# Altium integrated library Maxim Memory.IntLib: 366 symbols (part 4 of 7)
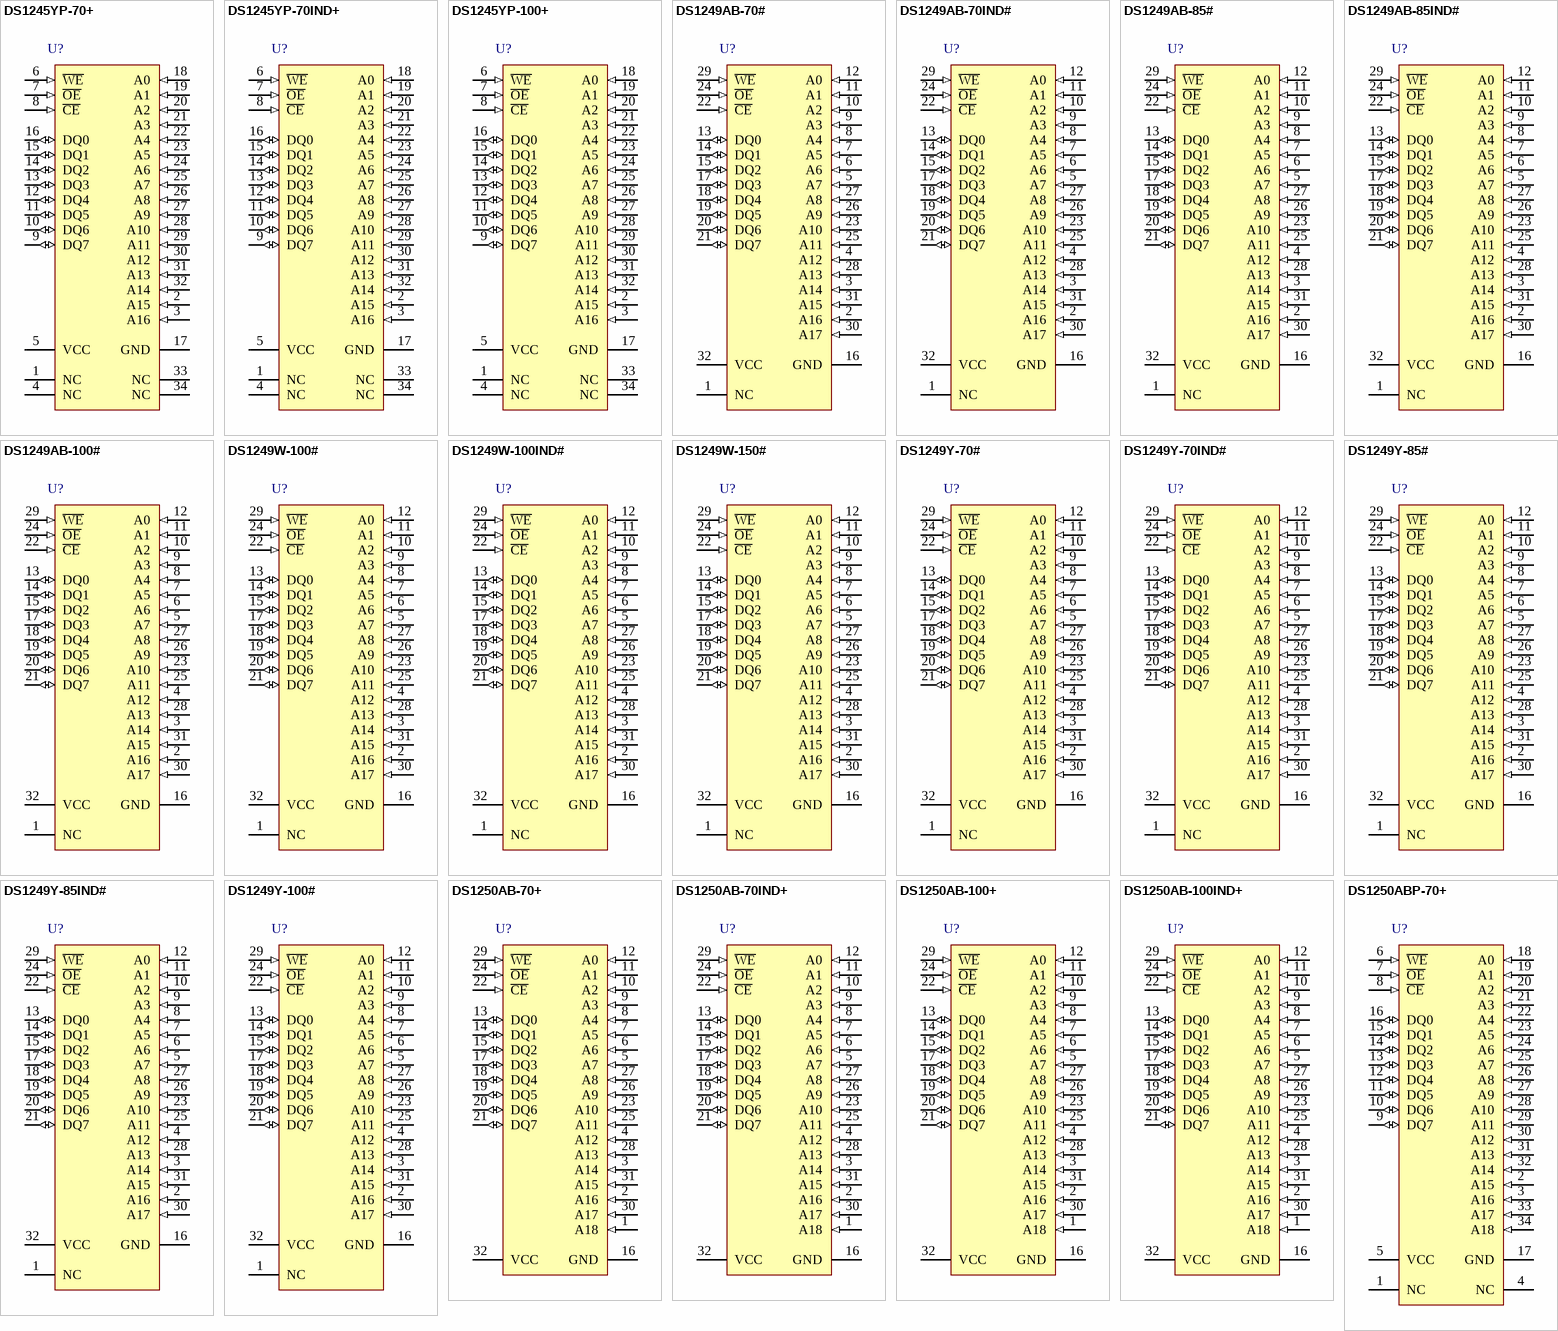
[diagram p16: symbols DS1245YP-70+ to DS1250ABP-70+]

## DS1250ABP-70+
designator U?
4Mb Nonvolatile SRAM, +/-5% VCC Operating range, 34-pin PCAP, 0° to + 70° C, Pb-Free; DatasheetVersion: 1/12/2010; PackageVersion: revA, 2004; PackageReference: PC2+5; PackageDescription: 34-Pin PowerCap 0.990 Module with Cap, Pb-Free; ComponentLink1Description: Manufacturer URL; ComponentLink1URL: www.maxim-ic.com; ComponentLink2Description: Datasheet; ComponentLink2URL: http://datasheets.maxim-ic.com/en/ds/DS1250AB-DS1250Y.pdf
footprint PC2+5 (PowerCap Module with Cap, 34-Leads, Body 24.7 x.25.3mm, Pitch 1.27mm)
pins: 1 NC, 2 A15 (in), 3 A16 (in), 4 NC, 5 VCC (power), 6 ~{WE} (in), 7 ~{OE} (in), 8 ~{CE} (in), 9 DQ7 (io), 10 DQ6 (io), 11 DQ5 (io), 12 DQ4 (io), 13 DQ3 (io), 14 DQ2 (io), 15 DQ1 (io), 16 DQ0 (io), 17 GND (power), 18 A0 (in), 19 A1 (in), 20 A2 (in), 21 A3 (in), 22 A4 (in), 23 A5 (in), 24 A6 (in), 25 A7 (in), 26 A8 (in), 27 A9 (in), 28 A10 (in), 29 A11 (in), 30 A12 (in), 31 A13 (in), 32 A14 (in), 33 A17 (in), 34 A18 (in)

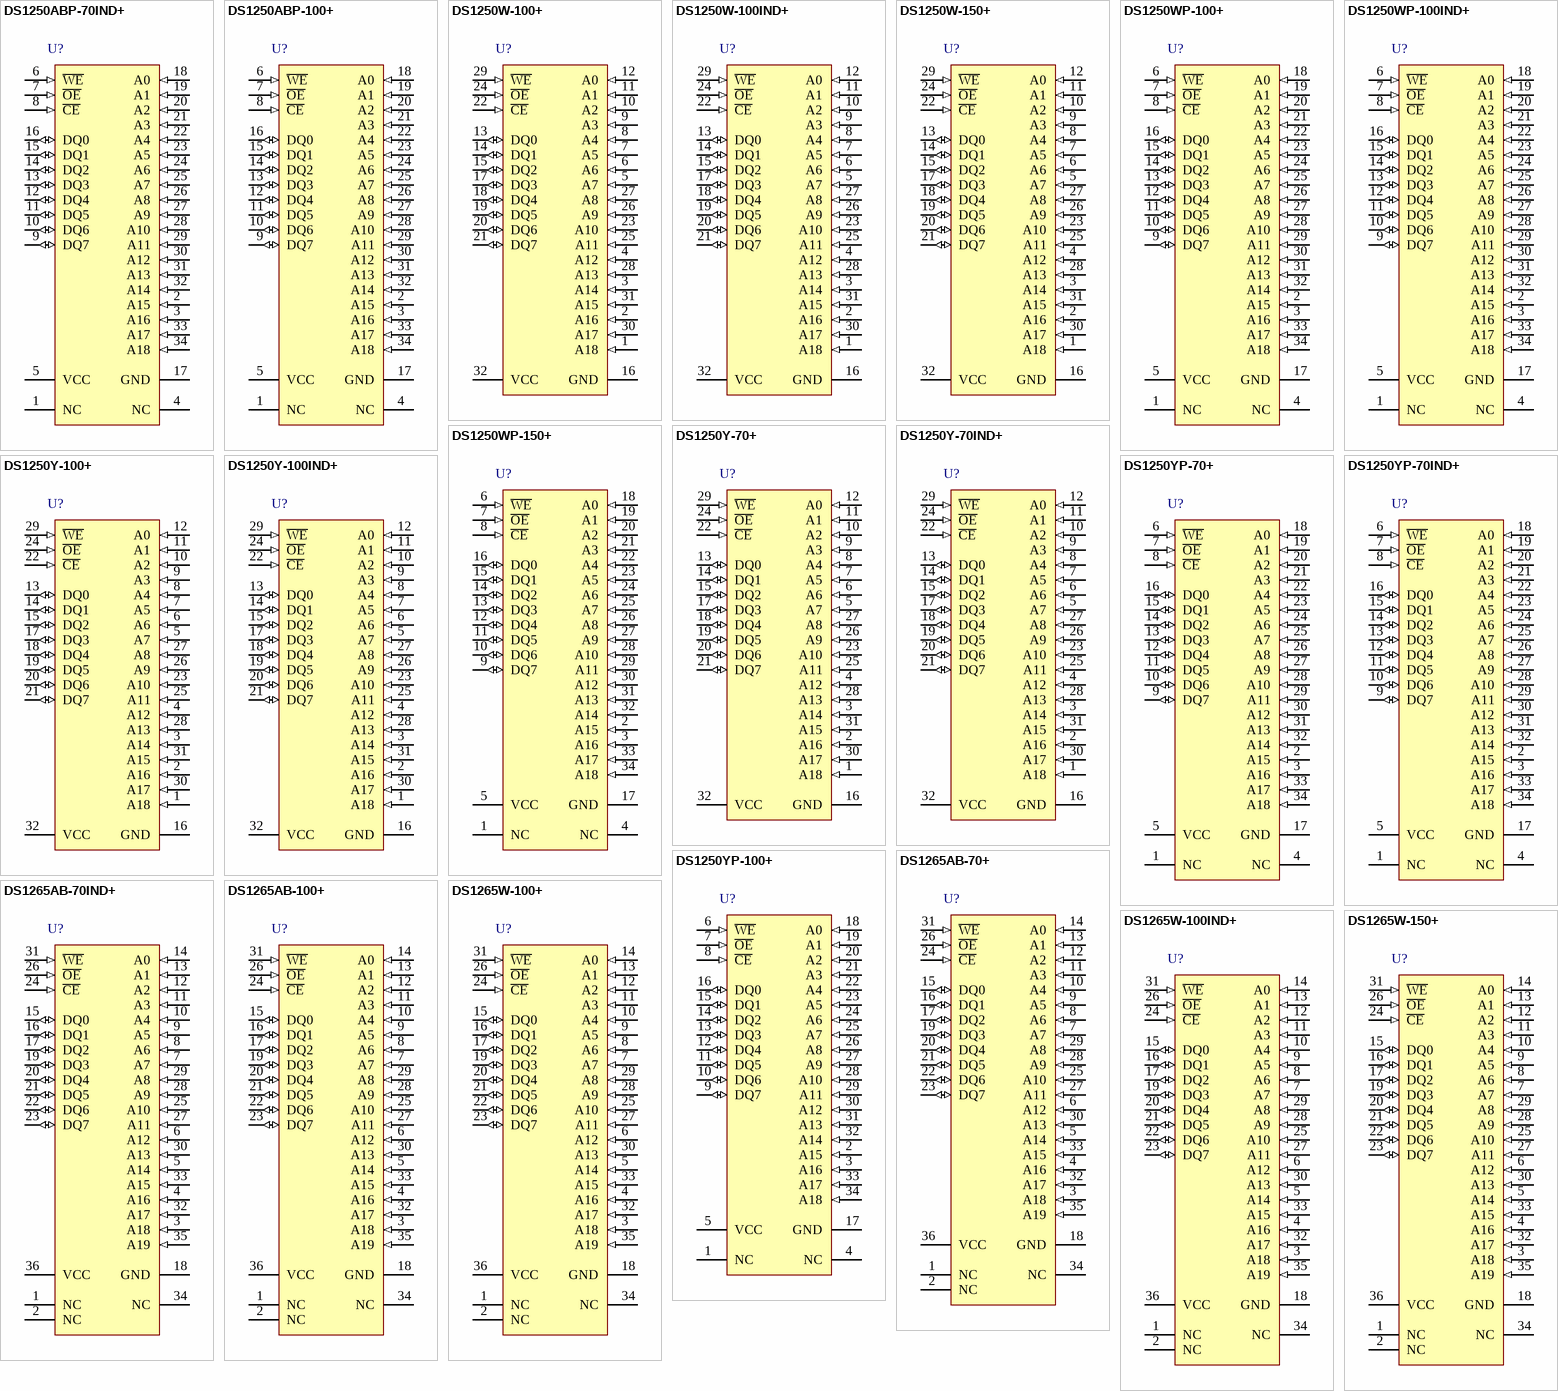
[diagram p6: symbols DS1250ABP-70IND+ to DS1265W-150+]

## DS1250ABP-70IND+
designator U?
4Mb Nonvolatile SRAM, +/-5% VCC Operating range, 34-pin PCAP, -40° to + 85° C, Pb-Free; DatasheetVersion: 1/12/2010; PackageVersion: revA, 2004; PackageReference: PC2+5; PackageDescription: 34-Pin PowerCap 0.990 Module with Cap, Pb-Free; ComponentLink1Description: Manufacturer URL; ComponentLink1URL: www.maxim-ic.com; ComponentLink2Description: Datasheet; ComponentLink2URL: http://datasheets.maxim-ic.com/en/ds/DS1250AB-DS1250Y.pdf
footprint PC2+5 (PowerCap Module with Cap, 34-Leads, Body 24.7 x.25.3mm, Pitch 1.27mm)
pins: 1 NC, 2 A15 (in), 3 A16 (in), 4 NC, 5 VCC (power), 6 ~{WE} (in), 7 ~{OE} (in), 8 ~{CE} (in), 9 DQ7 (io), 10 DQ6 (io), 11 DQ5 (io), 12 DQ4 (io), 13 DQ3 (io), 14 DQ2 (io), 15 DQ1 (io), 16 DQ0 (io), 17 GND (power), 18 A0 (in), 19 A1 (in), 20 A2 (in), 21 A3 (in), 22 A4 (in), 23 A5 (in), 24 A6 (in), 25 A7 (in), 26 A8 (in), 27 A9 (in), 28 A10 (in), 29 A11 (in), 30 A12 (in), 31 A13 (in), 32 A14 (in), 33 A17 (in), 34 A18 (in)

## DS1250ABP-100+
designator U?
4Mb Nonvolatile SRAM, +/-5% VCC Operating range, 34-pin PCAP, 0° to + 70° C, Pb-Free; DatasheetVersion: 1/12/2010; PackageVersion: revA, 2004; PackageReference: PC2+5; PackageDescription: 34-Pin PowerCap 0.990 Module with Cap, Pb-Free; ComponentLink1Description: Manufacturer URL; ComponentLink1URL: www.maxim-ic.com; ComponentLink2Description: Datasheet; ComponentLink2URL: http://datasheets.maxim-ic.com/en/ds/DS1250AB-DS1250Y.pdf
footprint PC2+5 (PowerCap Module with Cap, 34-Leads, Body 24.7 x.25.3mm, Pitch 1.27mm)
pins: 1 NC, 2 A15 (in), 3 A16 (in), 4 NC, 5 VCC (power), 6 ~{WE} (in), 7 ~{OE} (in), 8 ~{CE} (in), 9 DQ7 (io), 10 DQ6 (io), 11 DQ5 (io), 12 DQ4 (io), 13 DQ3 (io), 14 DQ2 (io), 15 DQ1 (io), 16 DQ0 (io), 17 GND (power), 18 A0 (in), 19 A1 (in), 20 A2 (in), 21 A3 (in), 22 A4 (in), 23 A5 (in), 24 A6 (in), 25 A7 (in), 26 A8 (in), 27 A9 (in), 28 A10 (in), 29 A11 (in), 30 A12 (in), 31 A13 (in), 32 A14 (in), 33 A17 (in), 34 A18 (in)

## DS1250W-100+
designator U?
4Mb 3.3V Nonvolatile SRAM, 32-pin EDIP, 0° to + 70° C, Pb-Free; DatasheetVersion: 1/12/2010; PackageVersion: revA, Feb-2003; PackageReference: MDT32+6; PackageDescription: 32-Pin Encapsulated Dual-In-Line Module, 2.54 mm Pitch, EDIP, Pb-Free; ComponentLink1Description: Manufacturer URL; ComponentLink1URL: www.maxim-ic.com; ComponentLink2Description: Datasheet; ComponentLink2URL: http://datasheets.maxim-ic.com/en/ds/DS1250W.pdf
footprint MDT32+6 (DIP; 32 Rectangular Pins, Body 43.1x18.5mm, Row Space 15.24mm, Pitch 2.54mm)
pins: 1 A18 (in), 2 A16 (in), 3 A14 (in), 4 A12 (in), 5 A7 (in), 6 A6 (in), 7 A5 (in), 8 A4 (in), 9 A3 (in), 10 A2 (in), 11 A1 (in), 12 A0 (in), 13 DQ0 (io), 14 DQ1 (io), 15 DQ2 (io), 16 GND (power), 17 DQ3 (io), 18 DQ4 (io), 19 DQ5 (io), 20 DQ6 (io), 21 DQ7 (io), 22 ~{CE} (in), 23 A10 (in), 24 ~{OE} (in), 25 A11 (in), 26 A9 (in), 27 A8 (in), 28 A13 (in), 29 ~{WE} (in), 30 A17 (in), 31 A15 (in), 32 VCC (power)

## DS1250W-100IND+
designator U?
4Mb 3.3V Nonvolatile SRAM, 32-pin EDIP, -40° to + 85° C, Pb-Free; DatasheetVersion: 1/12/2010; PackageVersion: revA, Feb-2003; PackageReference: MDT32+6; PackageDescription: 32-Pin Encapsulated Dual-In-Line Module, 2.54 mm Pitch, EDIP, Pb-Free; ComponentLink1Description: Manufacturer URL; ComponentLink1URL: www.maxim-ic.com; ComponentLink2Description: Datasheet; ComponentLink2URL: http://datasheets.maxim-ic.com/en/ds/DS1250W.pdf
footprint MDT32+6 (DIP; 32 Rectangular Pins, Body 43.1x18.5mm, Row Space 15.24mm, Pitch 2.54mm)
pins: 1 A18 (in), 2 A16 (in), 3 A14 (in), 4 A12 (in), 5 A7 (in), 6 A6 (in), 7 A5 (in), 8 A4 (in), 9 A3 (in), 10 A2 (in), 11 A1 (in), 12 A0 (in), 13 DQ0 (io), 14 DQ1 (io), 15 DQ2 (io), 16 GND (power), 17 DQ3 (io), 18 DQ4 (io), 19 DQ5 (io), 20 DQ6 (io), 21 DQ7 (io), 22 ~{CE} (in), 23 A10 (in), 24 ~{OE} (in), 25 A11 (in), 26 A9 (in), 27 A8 (in), 28 A13 (in), 29 ~{WE} (in), 30 A17 (in), 31 A15 (in), 32 VCC (power)

## DS1250W-150+
designator U?
4Mb 3.3V Nonvolatile SRAM, 32-pin EDIP, 0° to + 70° C, Pb-Free; DatasheetVersion: 1/12/2010; PackageVersion: revA, Feb-2003; PackageReference: MDT32+6; PackageDescription: 32-Pin Encapsulated Dual-In-Line Module, 2.54 mm Pitch, EDIP, Pb-Free; ComponentLink1Description: Manufacturer URL; ComponentLink1URL: www.maxim-ic.com; ComponentLink2Description: Datasheet; ComponentLink2URL: http://datasheets.maxim-ic.com/en/ds/DS1250W.pdf
footprint MDT32+6 (DIP; 32 Rectangular Pins, Body 43.1x18.5mm, Row Space 15.24mm, Pitch 2.54mm)
pins: 1 A18 (in), 2 A16 (in), 3 A14 (in), 4 A12 (in), 5 A7 (in), 6 A6 (in), 7 A5 (in), 8 A4 (in), 9 A3 (in), 10 A2 (in), 11 A1 (in), 12 A0 (in), 13 DQ0 (io), 14 DQ1 (io), 15 DQ2 (io), 16 GND (power), 17 DQ3 (io), 18 DQ4 (io), 19 DQ5 (io), 20 DQ6 (io), 21 DQ7 (io), 22 ~{CE} (in), 23 A10 (in), 24 ~{OE} (in), 25 A11 (in), 26 A9 (in), 27 A8 (in), 28 A13 (in), 29 ~{WE} (in), 30 A17 (in), 31 A15 (in), 32 VCC (power)

## DS1250WP-100+
designator U?
4Mb 3.3V Nonvolatile SRAM, 34-pin PCAP, 0° to + 70° C, Pb-Free; DatasheetVersion: 1/12/2010; PackageVersion: revA, 2004; PackageReference: PC2+5; PackageDescription: 34-Pin PowerCap 0.990 Module with Cap, Pb-Free; ComponentLink1Description: Manufacturer URL; ComponentLink1URL: www.maxim-ic.com; ComponentLink2Description: Datasheet; ComponentLink2URL: http://datasheets.maxim-ic.com/en/ds/DS1250W.pdf
footprint PC2+5 (PowerCap Module with Cap, 34-Leads, Body 24.7 x.25.3mm, Pitch 1.27mm)
pins: 1 NC, 2 A15 (in), 3 A16 (in), 4 NC, 5 VCC (power), 6 ~{WE} (in), 7 ~{OE} (in), 8 ~{CE} (in), 9 DQ7 (io), 10 DQ6 (io), 11 DQ5 (io), 12 DQ4 (io), 13 DQ3 (io), 14 DQ2 (io), 15 DQ1 (io), 16 DQ0 (io), 17 GND (power), 18 A0 (in), 19 A1 (in), 20 A2 (in), 21 A3 (in), 22 A4 (in), 23 A5 (in), 24 A6 (in), 25 A7 (in), 26 A8 (in), 27 A9 (in), 28 A10 (in), 29 A11 (in), 30 A12 (in), 31 A13 (in), 32 A14 (in), 33 A17 (in), 34 A18 (in)

## DS1250WP-100IND+
designator U?
4Mb 3.3V Nonvolatile SRAM, 34-pin PCAP, -40° to + 85° C, Pb-Free; DatasheetVersion: 1/12/2010; PackageVersion: revA, 2004; PackageReference: PC2+5; PackageDescription: 34-Pin PowerCap 0.990 Module with Cap, Pb-Free; ComponentLink1Description: Manufacturer URL; ComponentLink1URL: www.maxim-ic.com; ComponentLink2Description: Datasheet; ComponentLink2URL: http://datasheets.maxim-ic.com/en/ds/DS1250W.pdf
footprint PC2+5 (PowerCap Module with Cap, 34-Leads, Body 24.7 x.25.3mm, Pitch 1.27mm)
pins: 1 NC, 2 A15 (in), 3 A16 (in), 4 NC, 5 VCC (power), 6 ~{WE} (in), 7 ~{OE} (in), 8 ~{CE} (in), 9 DQ7 (io), 10 DQ6 (io), 11 DQ5 (io), 12 DQ4 (io), 13 DQ3 (io), 14 DQ2 (io), 15 DQ1 (io), 16 DQ0 (io), 17 GND (power), 18 A0 (in), 19 A1 (in), 20 A2 (in), 21 A3 (in), 22 A4 (in), 23 A5 (in), 24 A6 (in), 25 A7 (in), 26 A8 (in), 27 A9 (in), 28 A10 (in), 29 A11 (in), 30 A12 (in), 31 A13 (in), 32 A14 (in), 33 A17 (in), 34 A18 (in)

## DS1250WP-150+
designator U?
4Mb 3.3V Nonvolatile SRAM, 34-pin PCAP, 0° to + 70° C, Pb-Free; DatasheetVersion: 1/12/2010; PackageVersion: revA, 2004; PackageReference: PC2+5; PackageDescription: 34-Pin PowerCap 0.990 Module with Cap, Pb-Free; ComponentLink1Description: Manufacturer URL; ComponentLink1URL: www.maxim-ic.com; ComponentLink2Description: Datasheet; ComponentLink2URL: http://datasheets.maxim-ic.com/en/ds/DS1250W.pdf
footprint PC2+5 (PowerCap Module with Cap, 34-Leads, Body 24.7 x.25.3mm, Pitch 1.27mm)
pins: 1 NC, 2 A15 (in), 3 A16 (in), 4 NC, 5 VCC (power), 6 ~{WE} (in), 7 ~{OE} (in), 8 ~{CE} (in), 9 DQ7 (io), 10 DQ6 (io), 11 DQ5 (io), 12 DQ4 (io), 13 DQ3 (io), 14 DQ2 (io), 15 DQ1 (io), 16 DQ0 (io), 17 GND (power), 18 A0 (in), 19 A1 (in), 20 A2 (in), 21 A3 (in), 22 A4 (in), 23 A5 (in), 24 A6 (in), 25 A7 (in), 26 A8 (in), 27 A9 (in), 28 A10 (in), 29 A11 (in), 30 A12 (in), 31 A13 (in), 32 A14 (in), 33 A17 (in), 34 A18 (in)

## DS1250Y-70+
designator U?
4Mb Nonvolatile SRAM, +/-10% VCC Operating range, 32-pin EDIP, 0° to + 70° C, Pb-Free; DatasheetVersion: 1/12/2010; PackageVersion: revA, Feb-2003; PackageReference: MDT32+6; PackageDescription: 32-Pin Encapsulated Dual-In-Line Module, 2.54 mm Pitch, EDIP, Pb-Free; ComponentLink1Description: Manufacturer URL; ComponentLink1URL: www.maxim-ic.com; ComponentLink2Description: Datasheet; ComponentLink2URL: http://datasheets.maxim-ic.com/en/ds/DS1250AB-DS1250Y.pdf
footprint MDT32+6 (DIP; 32 Rectangular Pins, Body 43.1x18.5mm, Row Space 15.24mm, Pitch 2.54mm)
pins: 1 A18 (in), 2 A16 (in), 3 A14 (in), 4 A12 (in), 5 A7 (in), 6 A6 (in), 7 A5 (in), 8 A4 (in), 9 A3 (in), 10 A2 (in), 11 A1 (in), 12 A0 (in), 13 DQ0 (io), 14 DQ1 (io), 15 DQ2 (io), 16 GND (power), 17 DQ3 (io), 18 DQ4 (io), 19 DQ5 (io), 20 DQ6 (io), 21 DQ7 (io), 22 ~{CE} (in), 23 A10 (in), 24 ~{OE} (in), 25 A11 (in), 26 A9 (in), 27 A8 (in), 28 A13 (in), 29 ~{WE} (in), 30 A17 (in), 31 A15 (in), 32 VCC (power)

## DS1250Y-70IND+
designator U?
4Mb Nonvolatile SRAM, +/-10% VCC Operating range, 32-pin EDIP, -40° to + 85° C, Pb-Free; DatasheetVersion: 1/12/2010; PackageVersion: revA, Feb-2003; PackageReference: MDT32+6; PackageDescription: 32-Pin Encapsulated Dual-In-Line Module, 2.54 mm Pitch, EDIP, Pb-Free; ComponentLink1Description: Manufacturer URL; ComponentLink1URL: www.maxim-ic.com; ComponentLink2Description: Datasheet; ComponentLink2URL: http://datasheets.maxim-ic.com/en/ds/DS1250AB-DS1250Y.pdf
footprint MDT32+6 (DIP; 32 Rectangular Pins, Body 43.1x18.5mm, Row Space 15.24mm, Pitch 2.54mm)
pins: 1 A18 (in), 2 A16 (in), 3 A14 (in), 4 A12 (in), 5 A7 (in), 6 A6 (in), 7 A5 (in), 8 A4 (in), 9 A3 (in), 10 A2 (in), 11 A1 (in), 12 A0 (in), 13 DQ0 (io), 14 DQ1 (io), 15 DQ2 (io), 16 GND (power), 17 DQ3 (io), 18 DQ4 (io), 19 DQ5 (io), 20 DQ6 (io), 21 DQ7 (io), 22 ~{CE} (in), 23 A10 (in), 24 ~{OE} (in), 25 A11 (in), 26 A9 (in), 27 A8 (in), 28 A13 (in), 29 ~{WE} (in), 30 A17 (in), 31 A15 (in), 32 VCC (power)

## DS1250Y-100+
designator U?
4Mb Nonvolatile SRAM, +/-10% VCC Operating range, 32-pin EDIP, 0° to + 70° C, Pb-Free; DatasheetVersion: 1/12/2010; PackageVersion: revA, Feb-2003; PackageReference: MDT32+6; PackageDescription: 32-Pin Encapsulated Dual-In-Line Module, 2.54 mm Pitch, EDIP, Pb-Free; ComponentLink1Description: Manufacturer URL; ComponentLink1URL: www.maxim-ic.com; ComponentLink2Description: Datasheet; ComponentLink2URL: http://datasheets.maxim-ic.com/en/ds/DS1250AB-DS1250Y.pdf
footprint MDT32+6 (DIP; 32 Rectangular Pins, Body 43.1x18.5mm, Row Space 15.24mm, Pitch 2.54mm)
pins: 1 A18 (in), 2 A16 (in), 3 A14 (in), 4 A12 (in), 5 A7 (in), 6 A6 (in), 7 A5 (in), 8 A4 (in), 9 A3 (in), 10 A2 (in), 11 A1 (in), 12 A0 (in), 13 DQ0 (io), 14 DQ1 (io), 15 DQ2 (io), 16 GND (power), 17 DQ3 (io), 18 DQ4 (io), 19 DQ5 (io), 20 DQ6 (io), 21 DQ7 (io), 22 ~{CE} (in), 23 A10 (in), 24 ~{OE} (in), 25 A11 (in), 26 A9 (in), 27 A8 (in), 28 A13 (in), 29 ~{WE} (in), 30 A17 (in), 31 A15 (in), 32 VCC (power)

## DS1250Y-100IND+
designator U?
4Mb Nonvolatile SRAM, +/-10% VCC Operating range, 32-pin EDIP, -40° to + 85° C, Pb-Free; DatasheetVersion: 1/12/2010; PackageVersion: revA, Feb-2003; PackageReference: MDT32+6; PackageDescription: 32-Pin Encapsulated Dual-In-Line Module, 2.54 mm Pitch, EDIP, Pb-Free; ComponentLink1Description: Manufacturer URL; ComponentLink1URL: www.maxim-ic.com; ComponentLink2Description: Datasheet; ComponentLink2URL: http://datasheets.maxim-ic.com/en/ds/DS1250AB-DS1250Y.pdf
footprint MDT32+6 (DIP; 32 Rectangular Pins, Body 43.1x18.5mm, Row Space 15.24mm, Pitch 2.54mm)
pins: 1 A18 (in), 2 A16 (in), 3 A14 (in), 4 A12 (in), 5 A7 (in), 6 A6 (in), 7 A5 (in), 8 A4 (in), 9 A3 (in), 10 A2 (in), 11 A1 (in), 12 A0 (in), 13 DQ0 (io), 14 DQ1 (io), 15 DQ2 (io), 16 GND (power), 17 DQ3 (io), 18 DQ4 (io), 19 DQ5 (io), 20 DQ6 (io), 21 DQ7 (io), 22 ~{CE} (in), 23 A10 (in), 24 ~{OE} (in), 25 A11 (in), 26 A9 (in), 27 A8 (in), 28 A13 (in), 29 ~{WE} (in), 30 A17 (in), 31 A15 (in), 32 VCC (power)

## DS1250YP-70+
designator U?
4Mb Nonvolatile SRAM, +/-10% VCC Operating range, 34-pin PCAP, 0° to + 70° C, Pb-Free; DatasheetVersion: 1/12/2010; PackageVersion: revA, 2004; PackageReference: PC2+5; PackageDescription: 34-Pin PowerCap 0.990 Module with Cap, Pb-Free; ComponentLink1Description: Manufacturer URL; ComponentLink1URL: www.maxim-ic.com; ComponentLink2Description: Datasheet; ComponentLink2URL: http://datasheets.maxim-ic.com/en/ds/DS1250AB-DS1250Y.pdf
footprint PC2+5 (PowerCap Module with Cap, 34-Leads, Body 24.7 x.25.3mm, Pitch 1.27mm)
pins: 1 NC, 2 A15 (in), 3 A16 (in), 4 NC, 5 VCC (power), 6 ~{WE} (in), 7 ~{OE} (in), 8 ~{CE} (in), 9 DQ7 (io), 10 DQ6 (io), 11 DQ5 (io), 12 DQ4 (io), 13 DQ3 (io), 14 DQ2 (io), 15 DQ1 (io), 16 DQ0 (io), 17 GND (power), 18 A0 (in), 19 A1 (in), 20 A2 (in), 21 A3 (in), 22 A4 (in), 23 A5 (in), 24 A6 (in), 25 A7 (in), 26 A8 (in), 27 A9 (in), 28 A10 (in), 29 A11 (in), 30 A12 (in), 31 A13 (in), 32 A14 (in), 33 A17 (in), 34 A18 (in)

## DS1250YP-70IND+
designator U?
4Mb Nonvolatile SRAM, +/-10% VCC Operating range, 34-pin PCAP, -40° to + 85° C, Pb-Free; DatasheetVersion: 1/12/2010; PackageVersion: revA, 2004; PackageReference: PC2+5; PackageDescription: 34-Pin PowerCap 0.990 Module with Cap, Pb-Free; ComponentLink1Description: Manufacturer URL; ComponentLink1URL: www.maxim-ic.com; ComponentLink2Description: Datasheet; ComponentLink2URL: http://datasheets.maxim-ic.com/en/ds/DS1250AB-DS1250Y.pdf
footprint PC2+5 (PowerCap Module with Cap, 34-Leads, Body 24.7 x.25.3mm, Pitch 1.27mm)
pins: 1 NC, 2 A15 (in), 3 A16 (in), 4 NC, 5 VCC (power), 6 ~{WE} (in), 7 ~{OE} (in), 8 ~{CE} (in), 9 DQ7 (io), 10 DQ6 (io), 11 DQ5 (io), 12 DQ4 (io), 13 DQ3 (io), 14 DQ2 (io), 15 DQ1 (io), 16 DQ0 (io), 17 GND (power), 18 A0 (in), 19 A1 (in), 20 A2 (in), 21 A3 (in), 22 A4 (in), 23 A5 (in), 24 A6 (in), 25 A7 (in), 26 A8 (in), 27 A9 (in), 28 A10 (in), 29 A11 (in), 30 A12 (in), 31 A13 (in), 32 A14 (in), 33 A17 (in), 34 A18 (in)

## DS1250YP-100+
designator U?
4Mb Nonvolatile SRAM, +/-10% VCC Operating range, 34-pin PCAP, 0° to + 70° C, Pb-Free; DatasheetVersion: 1/12/2010; PackageVersion: revA, 2004; PackageReference: PC2+5; PackageDescription: 34-Pin PowerCap 0.990 Module with Cap, Pb-Free; ComponentLink1Description: Manufacturer URL; ComponentLink1URL: www.maxim-ic.com; ComponentLink2Description: Datasheet; ComponentLink2URL: http://datasheets.maxim-ic.com/en/ds/DS1250AB-DS1250Y.pdf
footprint PC2+5 (PowerCap Module with Cap, 34-Leads, Body 24.7 x.25.3mm, Pitch 1.27mm)
pins: 1 NC, 2 A15 (in), 3 A16 (in), 4 NC, 5 VCC (power), 6 ~{WE} (in), 7 ~{OE} (in), 8 ~{CE} (in), 9 DQ7 (io), 10 DQ6 (io), 11 DQ5 (io), 12 DQ4 (io), 13 DQ3 (io), 14 DQ2 (io), 15 DQ1 (io), 16 DQ0 (io), 17 GND (power), 18 A0 (in), 19 A1 (in), 20 A2 (in), 21 A3 (in), 22 A4 (in), 23 A5 (in), 24 A6 (in), 25 A7 (in), 26 A8 (in), 27 A9 (in), 28 A10 (in), 29 A11 (in), 30 A12 (in), 31 A13 (in), 32 A14 (in), 33 A17 (in), 34 A18 (in)

## DS1265AB-70+
designator U?
8Mb Nonvolatile SRAM, +/-5% VCC Operating range, 36-pin EDIP, 0° to + 70° C, Pb-Free; DatasheetVersion: 1/11/2010; PackageVersion: revA, Feb-2003; PackageReference: MDT36+1; PackageDescription: 36-Pin Encapsulated Dual-In-Line Module, 2.54 mm Pitch, EDIP, Pb-Free; ComponentLink1Description: Manufacturer URL; ComponentLink1URL: www.maxim-ic.com; ComponentLink2Description: Datasheet; ComponentLink2URL: http://datasheets.maxim-ic.com/en/ds/DS1265AB-DS1265Y.pdf
footprint MDT36+1 (DIP; 36 Rectangular Pins, Body 53.2x18.5mm, Row Space 15.24mm, Pitch 2.54mm)
pins: 1 NC, 2 NC, 3 A18 (in), 4 A16 (in), 5 A14 (in), 6 A12 (in), 7 A7 (in), 8 A6 (in), 9 A5 (in), 10 A4 (in), 11 A3 (in), 12 A2 (in), 13 A1 (in), 14 A0 (in), 15 DQ0 (io), 16 DQ1 (io), 17 DQ2 (io), 18 GND (power), 19 DQ3 (io), 20 DQ4 (io), 21 DQ5 (io), 22 DQ6 (io), 23 DQ7 (io), 24 ~{CE} (in), 25 A10 (in), 26 ~{OE} (in), 27 A11 (in), 28 A9 (in), 29 A8 (in), 30 A13 (in), 31 ~{WE} (in), 32 A17 (in), 33 A15 (in), 34 NC, 35 A19 (in), 36 VCC (power)

## DS1265AB-70IND+
designator U?
8Mb Nonvolatile SRAM, +/-5% VCC Operating range, 36-pin EDIP, -40° to + 85° C, Pb-Free; DatasheetVersion: 1/11/2010; PackageVersion: revA, Feb-2003; PackageReference: MDT36+1; PackageDescription: 36-Pin Encapsulated Dual-In-Line Module, 2.54 mm Pitch, EDIP, Pb-Free; ComponentLink1Description: Manufacturer URL; ComponentLink1URL: www.maxim-ic.com; ComponentLink2Description: Datasheet; ComponentLink2URL: http://datasheets.maxim-ic.com/en/ds/DS1265AB-DS1265Y.pdf
footprint MDT36+1 (DIP; 36 Rectangular Pins, Body 53.2x18.5mm, Row Space 15.24mm, Pitch 2.54mm)
pins: 1 NC, 2 NC, 3 A18 (in), 4 A16 (in), 5 A14 (in), 6 A12 (in), 7 A7 (in), 8 A6 (in), 9 A5 (in), 10 A4 (in), 11 A3 (in), 12 A2 (in), 13 A1 (in), 14 A0 (in), 15 DQ0 (io), 16 DQ1 (io), 17 DQ2 (io), 18 GND (power), 19 DQ3 (io), 20 DQ4 (io), 21 DQ5 (io), 22 DQ6 (io), 23 DQ7 (io), 24 ~{CE} (in), 25 A10 (in), 26 ~{OE} (in), 27 A11 (in), 28 A9 (in), 29 A8 (in), 30 A13 (in), 31 ~{WE} (in), 32 A17 (in), 33 A15 (in), 34 NC, 35 A19 (in), 36 VCC (power)

## DS1265AB-100+
designator U?
8Mb Nonvolatile SRAM, +/-5% VCC Operating range, 36-pin EDIP, 0° to + 70° C, Pb-Free; DatasheetVersion: 1/11/2010; PackageVersion: revA, Feb-2003; PackageReference: MDT36+1; PackageDescription: 36-Pin Encapsulated Dual-In-Line Module, 2.54 mm Pitch, EDIP, Pb-Free; ComponentLink1Description: Manufacturer URL; ComponentLink1URL: www.maxim-ic.com; ComponentLink2Description: Datasheet; ComponentLink2URL: http://datasheets.maxim-ic.com/en/ds/DS1265AB-DS1265Y.pdf
footprint MDT36+1 (DIP; 36 Rectangular Pins, Body 53.2x18.5mm, Row Space 15.24mm, Pitch 2.54mm)
pins: 1 NC, 2 NC, 3 A18 (in), 4 A16 (in), 5 A14 (in), 6 A12 (in), 7 A7 (in), 8 A6 (in), 9 A5 (in), 10 A4 (in), 11 A3 (in), 12 A2 (in), 13 A1 (in), 14 A0 (in), 15 DQ0 (io), 16 DQ1 (io), 17 DQ2 (io), 18 GND (power), 19 DQ3 (io), 20 DQ4 (io), 21 DQ5 (io), 22 DQ6 (io), 23 DQ7 (io), 24 ~{CE} (in), 25 A10 (in), 26 ~{OE} (in), 27 A11 (in), 28 A9 (in), 29 A8 (in), 30 A13 (in), 31 ~{WE} (in), 32 A17 (in), 33 A15 (in), 34 NC, 35 A19 (in), 36 VCC (power)

## DS1265W-100+
designator U?
8Mb 3.3V Nonvolatile SRAM, 36-pin EDIP, 0° to + 70° C, Pb-Free; DatasheetVersion: 1/11/2010; PackageVersion: revA, Feb-2003; PackageReference: MDT36+1; PackageDescription: 36-Pin Encapsulated Dual-In-Line Module, 2.54 mm Pitch, EDIP, Pb-Free; ComponentLink1Description: Manufacturer URL; ComponentLink1URL: www.maxim-ic.com; ComponentLink2Description: Datasheet; ComponentLink2URL: http://datasheets.maxim-ic.com/en/ds/DS1265W.pdf
footprint MDT36+1 (DIP; 36 Rectangular Pins, Body 53.2x18.5mm, Row Space 15.24mm, Pitch 2.54mm)
pins: 1 NC, 2 NC, 3 A18 (in), 4 A16 (in), 5 A14 (in), 6 A12 (in), 7 A7 (in), 8 A6 (in), 9 A5 (in), 10 A4 (in), 11 A3 (in), 12 A2 (in), 13 A1 (in), 14 A0 (in), 15 DQ0 (io), 16 DQ1 (io), 17 DQ2 (io), 18 GND (power), 19 DQ3 (io), 20 DQ4 (io), 21 DQ5 (io), 22 DQ6 (io), 23 DQ7 (io), 24 ~{CE} (in), 25 A10 (in), 26 ~{OE} (in), 27 A11 (in), 28 A9 (in), 29 A8 (in), 30 A13 (in), 31 ~{WE} (in), 32 A17 (in), 33 A15 (in), 34 NC, 35 A19 (in), 36 VCC (power)

## DS1265W-100IND+
designator U?
8Mb 3.3V Nonvolatile SRAM, 36-pin EDIP, -40° to + 85° C, Pb-Free; DatasheetVersion: 1/11/2010; PackageVersion: revA, Feb-2003; PackageReference: MDT36+1; PackageDescription: 36-Pin Encapsulated Dual-In-Line Module, 2.54 mm Pitch, EDIP, Pb-Free; ComponentLink1Description: Manufacturer URL; ComponentLink1URL: www.maxim-ic.com; ComponentLink2Description: Datasheet; ComponentLink2URL: http://datasheets.maxim-ic.com/en/ds/DS1265W.pdf
footprint MDT36+1 (DIP; 36 Rectangular Pins, Body 53.2x18.5mm, Row Space 15.24mm, Pitch 2.54mm)
pins: 1 NC, 2 NC, 3 A18 (in), 4 A16 (in), 5 A14 (in), 6 A12 (in), 7 A7 (in), 8 A6 (in), 9 A5 (in), 10 A4 (in), 11 A3 (in), 12 A2 (in), 13 A1 (in), 14 A0 (in), 15 DQ0 (io), 16 DQ1 (io), 17 DQ2 (io), 18 GND (power), 19 DQ3 (io), 20 DQ4 (io), 21 DQ5 (io), 22 DQ6 (io), 23 DQ7 (io), 24 ~{CE} (in), 25 A10 (in), 26 ~{OE} (in), 27 A11 (in), 28 A9 (in), 29 A8 (in), 30 A13 (in), 31 ~{WE} (in), 32 A17 (in), 33 A15 (in), 34 NC, 35 A19 (in), 36 VCC (power)

## DS1265W-150+
designator U?
8Mb 3.3V Nonvolatile SRAM, 36-pin EDIP, 0° to + 70° C, Pb-Free; DatasheetVersion: 1/11/2010; PackageVersion: revA, Feb-2003; PackageReference: MDT36+1; PackageDescription: 36-Pin Encapsulated Dual-In-Line Module, 2.54 mm Pitch, EDIP, Pb-Free; ComponentLink1Description: Manufacturer URL; ComponentLink1URL: www.maxim-ic.com; ComponentLink2Description: Datasheet; ComponentLink2URL: http://datasheets.maxim-ic.com/en/ds/DS1265W.pdf
footprint MDT36+1 (DIP; 36 Rectangular Pins, Body 53.2x18.5mm, Row Space 15.24mm, Pitch 2.54mm)
pins: 1 NC, 2 NC, 3 A18 (in), 4 A16 (in), 5 A14 (in), 6 A12 (in), 7 A7 (in), 8 A6 (in), 9 A5 (in), 10 A4 (in), 11 A3 (in), 12 A2 (in), 13 A1 (in), 14 A0 (in), 15 DQ0 (io), 16 DQ1 (io), 17 DQ2 (io), 18 GND (power), 19 DQ3 (io), 20 DQ4 (io), 21 DQ5 (io), 22 DQ6 (io), 23 DQ7 (io), 24 ~{CE} (in), 25 A10 (in), 26 ~{OE} (in), 27 A11 (in), 28 A9 (in), 29 A8 (in), 30 A13 (in), 31 ~{WE} (in), 32 A17 (in), 33 A15 (in), 34 NC, 35 A19 (in), 36 VCC (power)

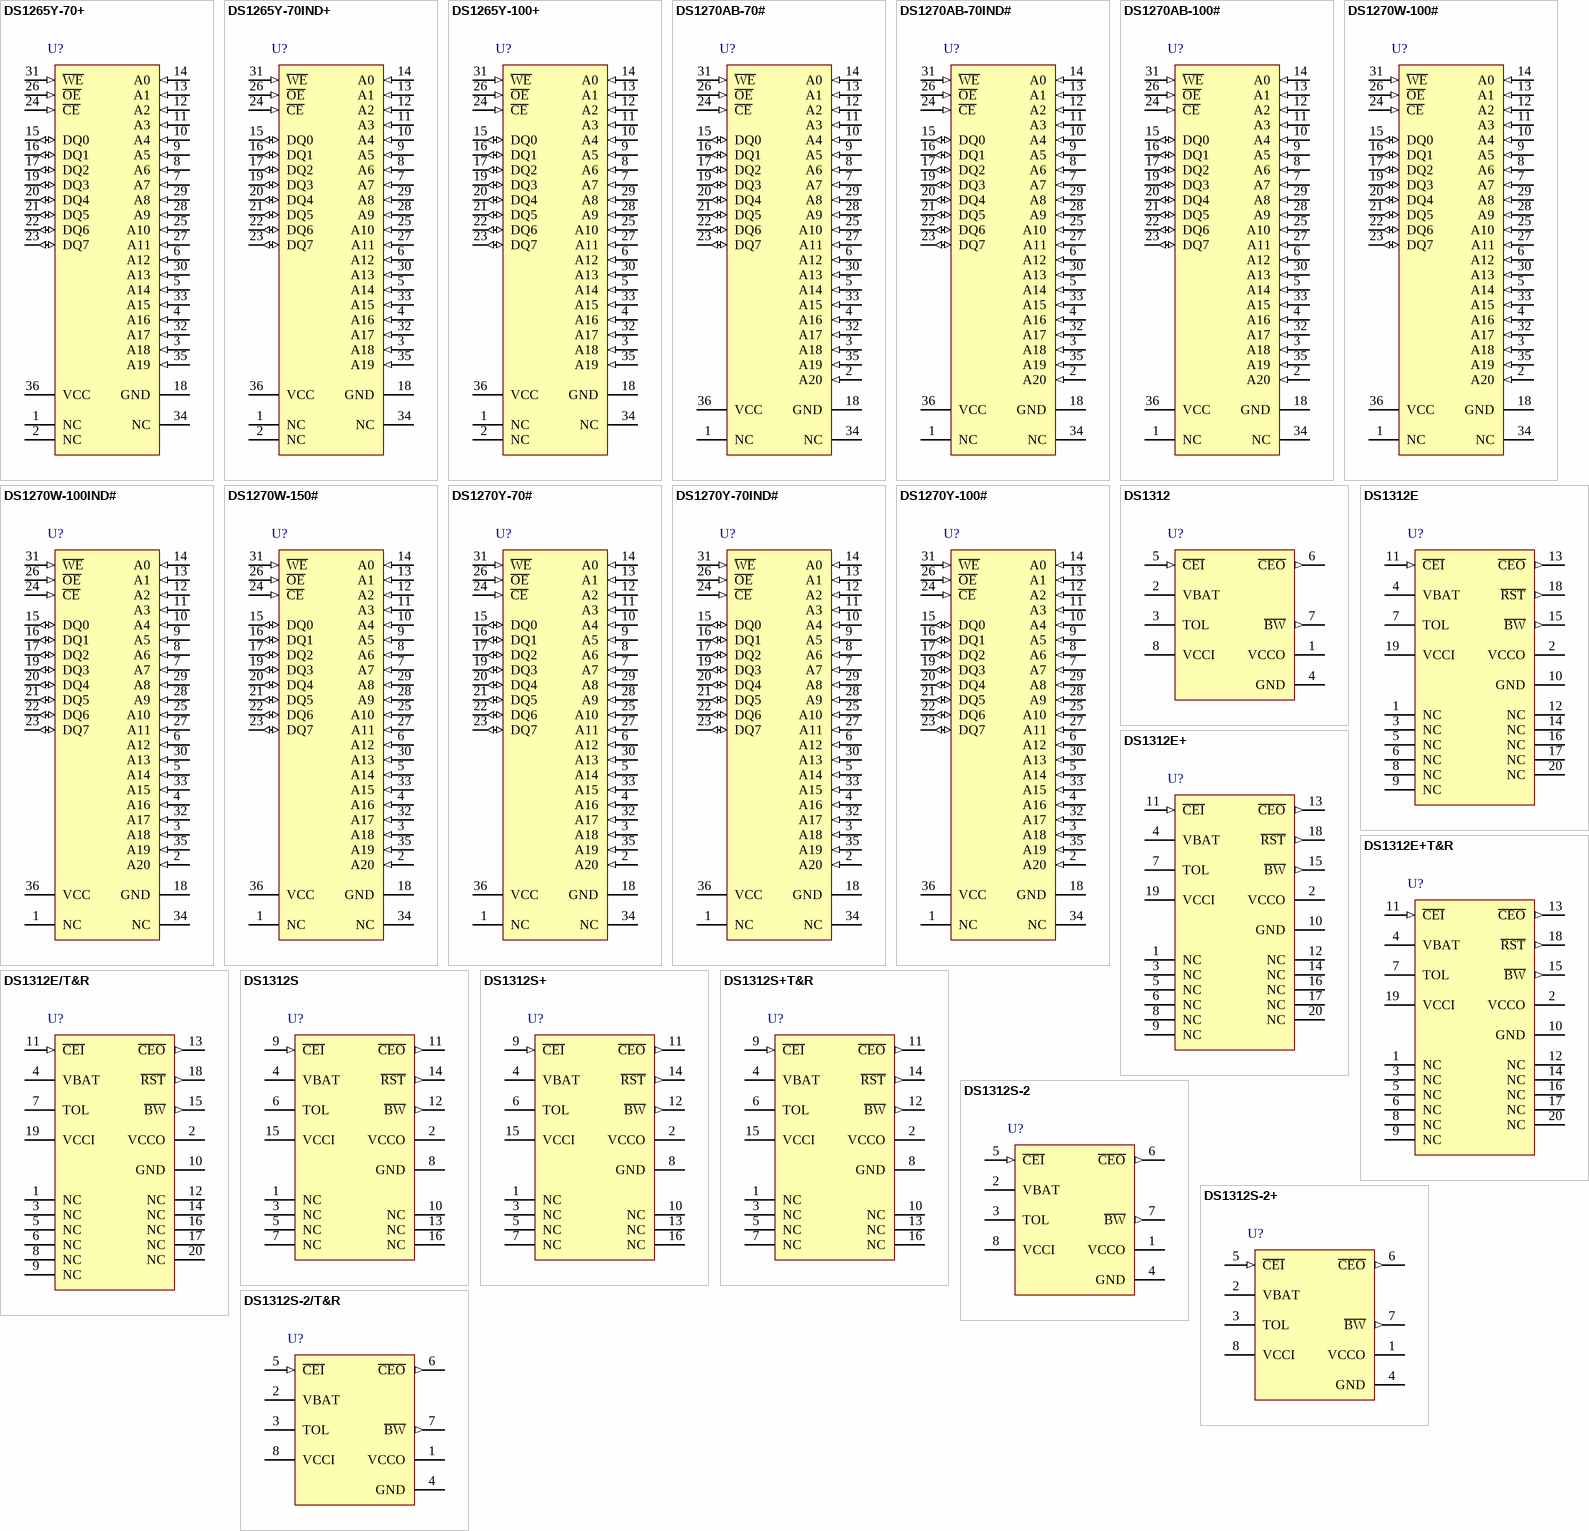
[diagram p7: symbols DS1265Y-70+ to DS1312S-2/T&R]

## DS1265Y-70+
designator U?
8Mb Nonvolatile SRAM, +/-10% VCC Operating range, 36-pin EDIP, 0° to + 70° C, Pb-Free; DatasheetVersion: 1/11/2010; PackageVersion: revA, Feb-2003; PackageReference: MDT36+1; PackageDescription: 36-Pin Encapsulated Dual-In-Line Module, 2.54 mm Pitch, EDIP, Pb-Free; ComponentLink1Description: Manufacturer URL; ComponentLink1URL: www.maxim-ic.com; ComponentLink2Description: Datasheet; ComponentLink2URL: http://datasheets.maxim-ic.com/en/ds/DS1265AB-DS1265Y.pdf
footprint MDT36+1 (DIP; 36 Rectangular Pins, Body 53.2x18.5mm, Row Space 15.24mm, Pitch 2.54mm)
pins: 1 NC, 2 NC, 3 A18 (in), 4 A16 (in), 5 A14 (in), 6 A12 (in), 7 A7 (in), 8 A6 (in), 9 A5 (in), 10 A4 (in), 11 A3 (in), 12 A2 (in), 13 A1 (in), 14 A0 (in), 15 DQ0 (io), 16 DQ1 (io), 17 DQ2 (io), 18 GND (power), 19 DQ3 (io), 20 DQ4 (io), 21 DQ5 (io), 22 DQ6 (io), 23 DQ7 (io), 24 ~{CE} (in), 25 A10 (in), 26 ~{OE} (in), 27 A11 (in), 28 A9 (in), 29 A8 (in), 30 A13 (in), 31 ~{WE} (in), 32 A17 (in), 33 A15 (in), 34 NC, 35 A19 (in), 36 VCC (power)

## DS1265Y-70IND+
designator U?
8Mb Nonvolatile SRAM, +/-10% VCC Operating range, 36-pin EDIP, -40° to + 85° C, Pb-Free; DatasheetVersion: 1/11/2010; PackageVersion: revA, Feb-2003; PackageReference: MDT36+1; PackageDescription: 36-Pin Encapsulated Dual-In-Line Module, 2.54 mm Pitch, EDIP, Pb-Free; ComponentLink1Description: Manufacturer URL; ComponentLink1URL: www.maxim-ic.com; ComponentLink2Description: Datasheet; ComponentLink2URL: http://datasheets.maxim-ic.com/en/ds/DS1265AB-DS1265Y.pdf
footprint MDT36+1 (DIP; 36 Rectangular Pins, Body 53.2x18.5mm, Row Space 15.24mm, Pitch 2.54mm)
pins: 1 NC, 2 NC, 3 A18 (in), 4 A16 (in), 5 A14 (in), 6 A12 (in), 7 A7 (in), 8 A6 (in), 9 A5 (in), 10 A4 (in), 11 A3 (in), 12 A2 (in), 13 A1 (in), 14 A0 (in), 15 DQ0 (io), 16 DQ1 (io), 17 DQ2 (io), 18 GND (power), 19 DQ3 (io), 20 DQ4 (io), 21 DQ5 (io), 22 DQ6 (io), 23 DQ7 (io), 24 ~{CE} (in), 25 A10 (in), 26 ~{OE} (in), 27 A11 (in), 28 A9 (in), 29 A8 (in), 30 A13 (in), 31 ~{WE} (in), 32 A17 (in), 33 A15 (in), 34 NC, 35 A19 (in), 36 VCC (power)

## DS1265Y-100+
designator U?
8Mb Nonvolatile SRAM, +/-10% VCC Operating range, 36-pin EDIP, 0° to + 70° C, Pb-Free; DatasheetVersion: 1/11/2010; PackageVersion: revA, Feb-2003; PackageReference: MDT36+1; PackageDescription: 36-Pin Encapsulated Dual-In-Line Module, 2.54 mm Pitch, EDIP, Pb-Free; ComponentLink1Description: Manufacturer URL; ComponentLink1URL: www.maxim-ic.com; ComponentLink2Description: Datasheet; ComponentLink2URL: http://datasheets.maxim-ic.com/en/ds/DS1265AB-DS1265Y.pdf
footprint MDT36+1 (DIP; 36 Rectangular Pins, Body 53.2x18.5mm, Row Space 15.24mm, Pitch 2.54mm)
pins: 1 NC, 2 NC, 3 A18 (in), 4 A16 (in), 5 A14 (in), 6 A12 (in), 7 A7 (in), 8 A6 (in), 9 A5 (in), 10 A4 (in), 11 A3 (in), 12 A2 (in), 13 A1 (in), 14 A0 (in), 15 DQ0 (io), 16 DQ1 (io), 17 DQ2 (io), 18 GND (power), 19 DQ3 (io), 20 DQ4 (io), 21 DQ5 (io), 22 DQ6 (io), 23 DQ7 (io), 24 ~{CE} (in), 25 A10 (in), 26 ~{OE} (in), 27 A11 (in), 28 A9 (in), 29 A8 (in), 30 A13 (in), 31 ~{WE} (in), 32 A17 (in), 33 A15 (in), 34 NC, 35 A19 (in), 36 VCC (power)

## DS1270AB-70#
designator U?
16Mb Nonvolatile SRAM, +/-5% VCC Operating range, 36-pin EDIP, 0° to + 70° C, RoHS Compliant; DatasheetVersion: 1/11/2010; PackageVersion: revA, Feb-2003; PackageReference: MDT36#2; PackageDescription: 36-Pin Encapsulated Dual-In-Line Module, 2.54 mm Pitch, EDIP, RoHS Qualified; ComponentLink1Description: Manufacturer URL; ComponentLink1URL: www.maxim-ic.com; ComponentLink2Description: Datasheet; ComponentLink2URL: http://datasheets.maxim-ic.com/en/ds/DS1270AB-DS1270Y.pdf
footprint MDT36#2 (DIP; 36 Rectangular Pins, Body 53.2x18.5mm, Row Space 15.24mm, Pitch 2.54mm)
pins: 1 NC, 2 A20 (in), 3 A18 (in), 4 A16 (in), 5 A14 (in), 6 A12 (in), 7 A7 (in), 8 A6 (in), 9 A5 (in), 10 A4 (in), 11 A3 (in), 12 A2 (in), 13 A1 (in), 14 A0 (in), 15 DQ0 (io), 16 DQ1 (io), 17 DQ2 (io), 18 GND (power), 19 DQ3 (io), 20 DQ4 (io), 21 DQ5 (io), 22 DQ6 (io), 23 DQ7 (io), 24 ~{CE} (in), 25 A10 (in), 26 ~{OE} (in), 27 A11 (in), 28 A9 (in), 29 A8 (in), 30 A13 (in), 31 ~{WE} (in), 32 A17 (in), 33 A15 (in), 34 NC, 35 A19 (in), 36 VCC (power)

## DS1270AB-70IND#
designator U?
16Mb Nonvolatile SRAM, +/-5% VCC Operating range, 36-pin EDIP, -40° to + 85° C, RoHS Compliant; DatasheetVersion: 1/11/2010; PackageVersion: revA, Feb-2003; PackageReference: MDT36#2; PackageDescription: 36-Pin Encapsulated Dual-In-Line Module, 2.54 mm Pitch, EDIP, RoHS Qualified; ComponentLink1Description: Manufacturer URL; ComponentLink1URL: www.maxim-ic.com; ComponentLink2Description: Datasheet; ComponentLink2URL: http://datasheets.maxim-ic.com/en/ds/DS1270AB-DS1270Y.pdf
footprint MDT36#2 (DIP; 36 Rectangular Pins, Body 53.2x18.5mm, Row Space 15.24mm, Pitch 2.54mm)
pins: 1 NC, 2 A20 (in), 3 A18 (in), 4 A16 (in), 5 A14 (in), 6 A12 (in), 7 A7 (in), 8 A6 (in), 9 A5 (in), 10 A4 (in), 11 A3 (in), 12 A2 (in), 13 A1 (in), 14 A0 (in), 15 DQ0 (io), 16 DQ1 (io), 17 DQ2 (io), 18 GND (power), 19 DQ3 (io), 20 DQ4 (io), 21 DQ5 (io), 22 DQ6 (io), 23 DQ7 (io), 24 ~{CE} (in), 25 A10 (in), 26 ~{OE} (in), 27 A11 (in), 28 A9 (in), 29 A8 (in), 30 A13 (in), 31 ~{WE} (in), 32 A17 (in), 33 A15 (in), 34 NC, 35 A19 (in), 36 VCC (power)

## DS1270AB-100#
designator U?
16Mb Nonvolatile SRAM, +/-5% VCC Operating range, 36-pin EDIP, 0° to + 70° C, RoHS Compliant; DatasheetVersion: 1/11/2010; PackageVersion: revA, Feb-2003; PackageReference: MDT36#2; PackageDescription: 36-Pin Encapsulated Dual-In-Line Module, 2.54 mm Pitch, EDIP, RoHS Qualified; ComponentLink1Description: Manufacturer URL; ComponentLink1URL: www.maxim-ic.com; ComponentLink2Description: Datasheet; ComponentLink2URL: http://datasheets.maxim-ic.com/en/ds/DS1270AB-DS1270Y.pdf
footprint MDT36#2 (DIP; 36 Rectangular Pins, Body 53.2x18.5mm, Row Space 15.24mm, Pitch 2.54mm)
pins: 1 NC, 2 A20 (in), 3 A18 (in), 4 A16 (in), 5 A14 (in), 6 A12 (in), 7 A7 (in), 8 A6 (in), 9 A5 (in), 10 A4 (in), 11 A3 (in), 12 A2 (in), 13 A1 (in), 14 A0 (in), 15 DQ0 (io), 16 DQ1 (io), 17 DQ2 (io), 18 GND (power), 19 DQ3 (io), 20 DQ4 (io), 21 DQ5 (io), 22 DQ6 (io), 23 DQ7 (io), 24 ~{CE} (in), 25 A10 (in), 26 ~{OE} (in), 27 A11 (in), 28 A9 (in), 29 A8 (in), 30 A13 (in), 31 ~{WE} (in), 32 A17 (in), 33 A15 (in), 34 NC, 35 A19 (in), 36 VCC (power)

## DS1270W-100#
designator U?
16Mb 3.3V Nonvolatile SRAM, 36-pin EDIP, 0° to + 70° C, RoHS Compliant; DatasheetVersion: 1/11/2010; PackageVersion: revA, Feb-2003; PackageReference: MDT36#2; PackageDescription: 36-Pin Encapsulated Dual-In-Line Module, 2.54 mm Pitch, EDIP, RoHS Qualified; ComponentLink1Description: Manufacturer URL; ComponentLink1URL: www.maxim-ic.com; ComponentLink2Description: Datasheet; ComponentLink2URL: http://datasheets.maxim-ic.com/en/ds/DS1270W.pdf
footprint MDT36#2 (DIP; 36 Rectangular Pins, Body 53.2x18.5mm, Row Space 15.24mm, Pitch 2.54mm)
pins: 1 NC, 2 A20 (in), 3 A18 (in), 4 A16 (in), 5 A14 (in), 6 A12 (in), 7 A7 (in), 8 A6 (in), 9 A5 (in), 10 A4 (in), 11 A3 (in), 12 A2 (in), 13 A1 (in), 14 A0 (in), 15 DQ0 (io), 16 DQ1 (io), 17 DQ2 (io), 18 GND (power), 19 DQ3 (io), 20 DQ4 (io), 21 DQ5 (io), 22 DQ6 (io), 23 DQ7 (io), 24 ~{CE} (in), 25 A10 (in), 26 ~{OE} (in), 27 A11 (in), 28 A9 (in), 29 A8 (in), 30 A13 (in), 31 ~{WE} (in), 32 A17 (in), 33 A15 (in), 34 NC, 35 A19 (in), 36 VCC (power)

## DS1270W-100IND#
designator U?
16Mb 3.3V Nonvolatile SRAM, 36-pin EDIP, -40° to + 85° C, RoHS Compliant; DatasheetVersion: 1/11/2010; PackageVersion: revA, Feb-2003; PackageReference: MDT36#2; PackageDescription: 36-Pin Encapsulated Dual-In-Line Module, 2.54 mm Pitch, EDIP, RoHS Qualified; ComponentLink1Description: Manufacturer URL; ComponentLink1URL: www.maxim-ic.com; ComponentLink2Description: Datasheet; ComponentLink2URL: http://datasheets.maxim-ic.com/en/ds/DS1270W.pdf
footprint MDT36#2 (DIP; 36 Rectangular Pins, Body 53.2x18.5mm, Row Space 15.24mm, Pitch 2.54mm)
pins: 1 NC, 2 A20 (in), 3 A18 (in), 4 A16 (in), 5 A14 (in), 6 A12 (in), 7 A7 (in), 8 A6 (in), 9 A5 (in), 10 A4 (in), 11 A3 (in), 12 A2 (in), 13 A1 (in), 14 A0 (in), 15 DQ0 (io), 16 DQ1 (io), 17 DQ2 (io), 18 GND (power), 19 DQ3 (io), 20 DQ4 (io), 21 DQ5 (io), 22 DQ6 (io), 23 DQ7 (io), 24 ~{CE} (in), 25 A10 (in), 26 ~{OE} (in), 27 A11 (in), 28 A9 (in), 29 A8 (in), 30 A13 (in), 31 ~{WE} (in), 32 A17 (in), 33 A15 (in), 34 NC, 35 A19 (in), 36 VCC (power)

## DS1270W-150#
designator U?
16Mb 3.3V Nonvolatile SRAM, 36-pin EDIP, 0° to + 70° C, RoHS Compliant; DatasheetVersion: 1/11/2010; PackageVersion: revA, Feb-2003; PackageReference: MDT36#2; PackageDescription: 36-Pin Encapsulated Dual-In-Line Module, 2.54 mm Pitch, EDIP, RoHS Qualified; ComponentLink1Description: Manufacturer URL; ComponentLink1URL: www.maxim-ic.com; ComponentLink2Description: Datasheet; ComponentLink2URL: http://datasheets.maxim-ic.com/en/ds/DS1270W.pdf
footprint MDT36#2 (DIP; 36 Rectangular Pins, Body 53.2x18.5mm, Row Space 15.24mm, Pitch 2.54mm)
pins: 1 NC, 2 A20 (in), 3 A18 (in), 4 A16 (in), 5 A14 (in), 6 A12 (in), 7 A7 (in), 8 A6 (in), 9 A5 (in), 10 A4 (in), 11 A3 (in), 12 A2 (in), 13 A1 (in), 14 A0 (in), 15 DQ0 (io), 16 DQ1 (io), 17 DQ2 (io), 18 GND (power), 19 DQ3 (io), 20 DQ4 (io), 21 DQ5 (io), 22 DQ6 (io), 23 DQ7 (io), 24 ~{CE} (in), 25 A10 (in), 26 ~{OE} (in), 27 A11 (in), 28 A9 (in), 29 A8 (in), 30 A13 (in), 31 ~{WE} (in), 32 A17 (in), 33 A15 (in), 34 NC, 35 A19 (in), 36 VCC (power)

## DS1270Y-70#
designator U?
16Mb Nonvolatile SRAM, +/-10% VCC Operating range, 36-pin EDIP, 0° to + 70° C, RoHS Compliant; DatasheetVersion: 1/11/2010; PackageVersion: revA, Feb-2003; PackageReference: MDT36#2; PackageDescription: 36-Pin Encapsulated Dual-In-Line Module, 2.54 mm Pitch, EDIP, RoHS Qualified; ComponentLink1Description: Manufacturer URL; ComponentLink1URL: www.maxim-ic.com; ComponentLink2Description: Datasheet; ComponentLink2URL: http://datasheets.maxim-ic.com/en/ds/DS1270AB-DS1270Y.pdf
footprint MDT36#2 (DIP; 36 Rectangular Pins, Body 53.2x18.5mm, Row Space 15.24mm, Pitch 2.54mm)
pins: 1 NC, 2 A20 (in), 3 A18 (in), 4 A16 (in), 5 A14 (in), 6 A12 (in), 7 A7 (in), 8 A6 (in), 9 A5 (in), 10 A4 (in), 11 A3 (in), 12 A2 (in), 13 A1 (in), 14 A0 (in), 15 DQ0 (io), 16 DQ1 (io), 17 DQ2 (io), 18 GND (power), 19 DQ3 (io), 20 DQ4 (io), 21 DQ5 (io), 22 DQ6 (io), 23 DQ7 (io), 24 ~{CE} (in), 25 A10 (in), 26 ~{OE} (in), 27 A11 (in), 28 A9 (in), 29 A8 (in), 30 A13 (in), 31 ~{WE} (in), 32 A17 (in), 33 A15 (in), 34 NC, 35 A19 (in), 36 VCC (power)

## DS1270Y-70IND#
designator U?
16Mb Nonvolatile SRAM, +/-10% VCC Operating range, 36-pin EDIP, -40° to + 85° C, RoHS Compliant; DatasheetVersion: 1/11/2010; PackageVersion: revA, Feb-2003; PackageReference: MDT36#2; PackageDescription: 36-Pin Encapsulated Dual-In-Line Module, 2.54 mm Pitch, EDIP, RoHS Qualified; ComponentLink1Description: Manufacturer URL; ComponentLink1URL: www.maxim-ic.com; ComponentLink2Description: Datasheet; ComponentLink2URL: http://datasheets.maxim-ic.com/en/ds/DS1270AB-DS1270Y.pdf
footprint MDT36#2 (DIP; 36 Rectangular Pins, Body 53.2x18.5mm, Row Space 15.24mm, Pitch 2.54mm)
pins: 1 NC, 2 A20 (in), 3 A18 (in), 4 A16 (in), 5 A14 (in), 6 A12 (in), 7 A7 (in), 8 A6 (in), 9 A5 (in), 10 A4 (in), 11 A3 (in), 12 A2 (in), 13 A1 (in), 14 A0 (in), 15 DQ0 (io), 16 DQ1 (io), 17 DQ2 (io), 18 GND (power), 19 DQ3 (io), 20 DQ4 (io), 21 DQ5 (io), 22 DQ6 (io), 23 DQ7 (io), 24 ~{CE} (in), 25 A10 (in), 26 ~{OE} (in), 27 A11 (in), 28 A9 (in), 29 A8 (in), 30 A13 (in), 31 ~{WE} (in), 32 A17 (in), 33 A15 (in), 34 NC, 35 A19 (in), 36 VCC (power)

## DS1270Y-100#
designator U?
16Mb Nonvolatile SRAM, +/-10% VCC Operating range, 36-pin EDIP, 0° to + 70° C, RoHS Compliant; DatasheetVersion: 1/11/2010; PackageVersion: revA, Feb-2003; PackageReference: MDT36#2; PackageDescription: 36-Pin Encapsulated Dual-In-Line Module, 2.54 mm Pitch, EDIP, RoHS Qualified; ComponentLink1Description: Manufacturer URL; ComponentLink1URL: www.maxim-ic.com; ComponentLink2Description: Datasheet; ComponentLink2URL: http://datasheets.maxim-ic.com/en/ds/DS1270AB-DS1270Y.pdf
footprint MDT36#2 (DIP; 36 Rectangular Pins, Body 53.2x18.5mm, Row Space 15.24mm, Pitch 2.54mm)
pins: 1 NC, 2 A20 (in), 3 A18 (in), 4 A16 (in), 5 A14 (in), 6 A12 (in), 7 A7 (in), 8 A6 (in), 9 A5 (in), 10 A4 (in), 11 A3 (in), 12 A2 (in), 13 A1 (in), 14 A0 (in), 15 DQ0 (io), 16 DQ1 (io), 17 DQ2 (io), 18 GND (power), 19 DQ3 (io), 20 DQ4 (io), 21 DQ5 (io), 22 DQ6 (io), 23 DQ7 (io), 24 ~{CE} (in), 25 A10 (in), 26 ~{OE} (in), 27 A11 (in), 28 A9 (in), 29 A8 (in), 30 A13 (in), 31 ~{WE} (in), 32 A17 (in), 33 A15 (in), 34 NC, 35 A19 (in), 36 VCC (power)

## DS1312
designator U?
Nonvolatile Controller with Lithium Battery Monitor, 8-pin PDIP, -40° to + 85° C; DatasheetVersion: 1/09/2004; PackageVersion: revE, 2011; PackageReference: P8-2; PackageDescription: 8-Pin Plastic Dual-In-Line, Narrow (0.3in), Pitch 2.54 mm, PDIP(N); Code_JEDEC: MS-001-AB; ComponentLink1Description: Manufacturer URL; ComponentLink1URL: www.maxim-ic.com; ComponentLink2Description: Datasheet; ComponentLink2URL: http://datasheets.maxim-ic.com/en/ds/DS1312.pdf
footprint P8-2 (DIP, 8-Leads, Row Spacing 7.62mm, Pitch 2.54mm, Body 9.4x7mm)
pins: 1 VCCO (power), 2 VBAT, 3 TOL, 4 GND (power), 5 ~{CEI} (in), 6 ~{CEO} (out), 7 ~{BW} (out), 8 VCCI (power)

## DS1312E
designator U?
Nonvolatile Controller with Lithium Battery Monitor, 20-pin TSSOP, -40° to + 85° C; DatasheetVersion: 1/09/2004; PackageVersion: revL, 2010; PackageReference: U20-1; PackageDescription: 20-Pin Thin Shrink Small-Outline Package, 4.4 mm Body, TSSOP; Code_JEDEC: MO-153-AC; ComponentLink1Description: Manufacturer URL; ComponentLink1URL: www.maxim-ic.com; ComponentLink2Description: Datasheet; ComponentLink2URL: http://datasheets.maxim-ic.com/en/ds/DS1312.pdf
footprint U20-1_N (TSOP, 20-Leads, Body 6.5x4.4mm, Pitch 0.65mm, IPC Medium Density)
footprint U20-1_L (TSOP, 20-Leads, Body 6.5x4.4mm, Pitch 0.65mm, IPC High Density)
footprint U20-1_M (TSOP, 20-Leads, Body 6.5x4.4mm, Pitch 0.65mm, IPC Low Density)
pins: 1 NC, 2 VCCO (power), 3 NC, 4 VBAT, 5 NC, 6 NC, 7 TOL, 8 NC, 9 NC, 10 GND (power), 11 ~{CEI} (in), 12 NC, 13 ~{CEO} (out), 14 NC, 15 ~{BW} (out), 16 NC, 17 NC, 18 ~{RST} (out), 19 VCCI (power), 20 NC

## DS1312E+
designator U?
Nonvolatile Controller with Lithium Battery Monitor, 20-pin TSSOP, -40° to + 85° C, Pb-Free; DatasheetVersion: 1/09/2004; PackageVersion: revL, 2010; PackageReference: U20+1; PackageDescription: 20-Pin Thin Shrink Small-Outline Package, 4.4 mm Body, TSSOP, Pb-Free; Code_JEDEC: MO-153-AC; ComponentLink1Description: Manufacturer URL; ComponentLink1URL: www.maxim-ic.com; ComponentLink2Description: Datasheet; ComponentLink2URL: http://datasheets.maxim-ic.com/en/ds/DS1312.pdf
footprint U20+1_N (TSOP, 20-Leads, Body 6.5x4.4mm, Pitch 0.65mm, IPC Medium Density)
footprint U20+1_L (TSOP, 20-Leads, Body 6.5x4.4mm, Pitch 0.65mm, IPC High Density)
footprint U20+1_M (TSOP, 20-Leads, Body 6.5x4.4mm, Pitch 0.65mm, IPC Low Density)
pins: 1 NC, 2 VCCO (power), 3 NC, 4 VBAT, 5 NC, 6 NC, 7 TOL, 8 NC, 9 NC, 10 GND (power), 11 ~{CEI} (in), 12 NC, 13 ~{CEO} (out), 14 NC, 15 ~{BW} (out), 16 NC, 17 NC, 18 ~{RST} (out), 19 VCCI (power), 20 NC

## DS1312E+T&R
designator U?
Nonvolatile Controller with Lithium Battery Monitor, 20-pin TSSOP, -40° to + 85° C, Pb-Free, Tape and Reel; DatasheetVersion: 1/09/2004; PackageVersion: revL, 2010; PackageReference: U20+1; PackageDescription: 20-Pin Thin Shrink Small-Outline Package, 4.4 mm Body, TSSOP, Pb-Free; Code_JEDEC: MO-153-AC; ComponentLink1Description: Manufacturer URL; ComponentLink1URL: www.maxim-ic.com; ComponentLink2Description: Datasheet; ComponentLink2URL: http://datasheets.maxim-ic.com/en/ds/DS1312.pdf
footprint U20+1_N (TSOP, 20-Leads, Body 6.5x4.4mm, Pitch 0.65mm, IPC Medium Density)
footprint U20+1_L (TSOP, 20-Leads, Body 6.5x4.4mm, Pitch 0.65mm, IPC High Density)
footprint U20+1_M (TSOP, 20-Leads, Body 6.5x4.4mm, Pitch 0.65mm, IPC Low Density)
pins: 1 NC, 2 VCCO (power), 3 NC, 4 VBAT, 5 NC, 6 NC, 7 TOL, 8 NC, 9 NC, 10 GND (power), 11 ~{CEI} (in), 12 NC, 13 ~{CEO} (out), 14 NC, 15 ~{BW} (out), 16 NC, 17 NC, 18 ~{RST} (out), 19 VCCI (power), 20 NC

## DS1312E/T&R
designator U?
Nonvolatile Controller with Lithium Battery Monitor, 20-pin TSSOP, -40° to + 85° C, Tape and Reel; DatasheetVersion: 1/09/2004; PackageVersion: revL, 2010; PackageReference: U20-1; PackageDescription: 20-Pin Thin Shrink Small-Outline Package, 4.4 mm Body, TSSOP; Code_JEDEC: MO-153-AC; ComponentLink1Description: Manufacturer URL; ComponentLink1URL: www.maxim-ic.com; ComponentLink2Description: Datasheet; ComponentLink2URL: http://datasheets.maxim-ic.com/en/ds/DS1312.pdf
footprint U20-1_N (TSOP, 20-Leads, Body 6.5x4.4mm, Pitch 0.65mm, IPC Medium Density)
footprint U20-1_L (TSOP, 20-Leads, Body 6.5x4.4mm, Pitch 0.65mm, IPC High Density)
footprint U20-1_M (TSOP, 20-Leads, Body 6.5x4.4mm, Pitch 0.65mm, IPC Low Density)
pins: 1 NC, 2 VCCO (power), 3 NC, 4 VBAT, 5 NC, 6 NC, 7 TOL, 8 NC, 9 NC, 10 GND (power), 11 ~{CEI} (in), 12 NC, 13 ~{CEO} (out), 14 NC, 15 ~{BW} (out), 16 NC, 17 NC, 18 ~{RST} (out), 19 VCCI (power), 20 NC

## DS1312S
designator U?
Nonvolatile Controller with Lithium Battery Monitor, 16-pin SOIC, -40° to + 85° C; DatasheetVersion: 1/09/2004; PackageVersion: revD, 2010; PackageReference: W16-1; PackageDescription: 16-Pin Small-Outline IC, Wide (0.3in), 1.27 mm Pitch, SOIC (W); Code_JEDEC: MS-013-AA; Code_IPC: SOIC127P1030-16; ComponentLink1Description: Manufacturer URL; ComponentLink1URL: www.maxim-ic.com; ComponentLink2Description: Datasheet; ComponentLink2URL: http://datasheets.maxim-ic.com/en/ds/DS1312.pdf
footprint W16-1_N (SOIC, 16-Leads, Body 10.3x7.5mm, Pitch 1.27mm, IPC Medium Density)
footprint W16-1_L (SOIC, 16-Leads, Body 10.3x7.5mm, Pitch 1.27mm, IPC High Density)
footprint W16-1_M (SOIC, 16-Leads, Body 10.3x7.5mm, Pitch 1.27mm, IPC Low Density)
pins: 1 NC, 2 VCCO (power), 3 NC, 4 VBAT, 5 NC, 6 TOL, 7 NC, 8 GND (power), 9 ~{CEI} (in), 10 NC, 11 ~{CEO} (out), 12 ~{BW} (out), 13 NC, 14 ~{RST} (out), 15 VCCI (power), 16 NC

## DS1312S+
designator U?
Nonvolatile Controller with Lithium Battery Monitor, 16-pin SOIC, -40° to + 85° C, Pb-Free; DatasheetVersion: 1/09/2004; PackageVersion: revD, 2010; PackageReference: W16+1; PackageDescription: 16-Pin Small-Outline IC, Wide (0.3in), 1.27 mm Pitch, SOIC (W), Pb-Free; Code_JEDEC: MS-013-AA; Code_IPC: SOIC127P1030-16; ComponentLink1Description: Manufacturer URL; ComponentLink1URL: www.maxim-ic.com; ComponentLink2Description: Datasheet; ComponentLink2URL: http://datasheets.maxim-ic.com/en/ds/DS1312.pdf
footprint W16+1_N (SOIC, 16-Leads, Body 10.3x7.5mm, Pitch 1.27mm, IPC Medium Density)
footprint W16+1_L (SOIC, 16-Leads, Body 10.3x7.5mm, Pitch 1.27mm, IPC High Density)
footprint W16+1_M (SOIC, 16-Leads, Body 10.3x7.5mm, Pitch 1.27mm, IPC Low Density)
pins: 1 NC, 2 VCCO (power), 3 NC, 4 VBAT, 5 NC, 6 TOL, 7 NC, 8 GND (power), 9 ~{CEI} (in), 10 NC, 11 ~{CEO} (out), 12 ~{BW} (out), 13 NC, 14 ~{RST} (out), 15 VCCI (power), 16 NC

## DS1312S+T&R
designator U?
Nonvolatile Controller with Lithium Battery Monitor, 16-pin SOIC, -40° to + 85° C, Pb-Free, Tape and Reel; DatasheetVersion: 1/09/2004; PackageVersion: revD, 2010; PackageReference: W16+1; PackageDescription: 16-Pin Small-Outline IC, Wide (0.3in), 1.27 mm Pitch, SOIC (W), Pb-Free; Code_JEDEC: MS-013-AA; Code_IPC: SOIC127P1030-16; ComponentLink1Description: Manufacturer URL; ComponentLink1URL: www.maxim-ic.com; ComponentLink2Description: Datasheet; ComponentLink2URL: http://datasheets.maxim-ic.com/en/ds/DS1312.pdf
footprint W16+1_N (SOIC, 16-Leads, Body 10.3x7.5mm, Pitch 1.27mm, IPC Medium Density)
footprint W16+1_L (SOIC, 16-Leads, Body 10.3x7.5mm, Pitch 1.27mm, IPC High Density)
footprint W16+1_M (SOIC, 16-Leads, Body 10.3x7.5mm, Pitch 1.27mm, IPC Low Density)
pins: 1 NC, 2 VCCO (power), 3 NC, 4 VBAT, 5 NC, 6 TOL, 7 NC, 8 GND (power), 9 ~{CEI} (in), 10 NC, 11 ~{CEO} (out), 12 ~{BW} (out), 13 NC, 14 ~{RST} (out), 15 VCCI (power), 16 NC

## DS1312S-2
designator U?
Nonvolatile Controller with Lithium Battery Monitor, 8-pin SOIC, -40° to + 85° C; DatasheetVersion: 1/09/2004; PackageVersion: revC, 2010; PackageReference: S8-4; PackageDescription: 8-Pin Small-Outline IC, Narrow (0.15in), 1.27 mm Pitch, SOIC (N); Code_JEDEC: MS-012-AA; Code_IPC: SOIC127P600-8; ComponentLink1Description: Manufacturer URL; ComponentLink1URL: www.maxim-ic.com; ComponentLink2Description: Datasheet; ComponentLink2URL: http://datasheets.maxim-ic.com/en/ds/DS1312.pdf
footprint S8-4_N (SOIC, 8-Leads, Body 4.9x3.9mm, Pitch 1.27mm, IPC Medium Density)
footprint S8-4_L (SOIC, 8-Leads, Body 4.9x3.9mm, Pitch 1.27mm, IPC High Density)
footprint S8-4_M (SOIC, 8-Leads, Body 4.9x3.9mm, Pitch 1.27mm, IPC Low Density)
pins: 1 VCCO (power), 2 VBAT, 3 TOL, 4 GND (power), 5 ~{CEI} (in), 6 ~{CEO} (out), 7 ~{BW} (out), 8 VCCI (power)

## DS1312S-2+
designator U?
Nonvolatile Controller with Lithium Battery Monitor, 8-pin SOIC, -40° to + 85° C, Pb-Free; DatasheetVersion: 1/09/2004; PackageVersion: revC, 2010; PackageReference: S8+4; PackageDescription: 8-Pin Small-Outline IC, Narrow (0.15in), 1.27 mm Pitch, SOIC (N), Pb-Free; Code_JEDEC: MS-012-AA; Code_IPC: SOIC127P600-8; ComponentLink1Description: Manufacturer URL; ComponentLink1URL: www.maxim-ic.com; ComponentLink2Description: Datasheet; ComponentLink2URL: http://datasheets.maxim-ic.com/en/ds/DS1312.pdf
footprint S8+4_N (SOIC, 8-Leads, Body 4.9x3.9mm, Pitch 1.27mm, IPC Medium Density)
footprint S8+4_L (SOIC, 8-Leads, Body 4.9x3.9mm, Pitch 1.27mm, IPC High Density)
footprint S8+4_M (SOIC, 8-Leads, Body 4.9x3.9mm, Pitch 1.27mm, IPC Low Density)
pins: 1 VCCO (power), 2 VBAT, 3 TOL, 4 GND (power), 5 ~{CEI} (in), 6 ~{CEO} (out), 7 ~{BW} (out), 8 VCCI (power)

## DS1312S-2/T&R
designator U?
Nonvolatile Controller with Lithium Battery Monitor, 8-pin SOIC, -40° to + 85° C, Tape and Reel; DatasheetVersion: 1/09/2004; PackageVersion: revC, 2010; PackageReference: S8-4; PackageDescription: 8-Pin Small-Outline IC, Narrow (0.15in), 1.27 mm Pitch, SOIC (N); Code_JEDEC: MS-012-AA; Code_IPC: SOIC127P600-8; ComponentLink1Description: Manufacturer URL; ComponentLink1URL: www.maxim-ic.com; ComponentLink2Description: Datasheet; ComponentLink2URL: http://datasheets.maxim-ic.com/en/ds/DS1312.pdf
footprint S8-4_N (SOIC, 8-Leads, Body 4.9x3.9mm, Pitch 1.27mm, IPC Medium Density)
footprint S8-4_L (SOIC, 8-Leads, Body 4.9x3.9mm, Pitch 1.27mm, IPC High Density)
footprint S8-4_M (SOIC, 8-Leads, Body 4.9x3.9mm, Pitch 1.27mm, IPC Low Density)
pins: 1 VCCO (power), 2 VBAT, 3 TOL, 4 GND (power), 5 ~{CEI} (in), 6 ~{CEO} (out), 7 ~{BW} (out), 8 VCCI (power)

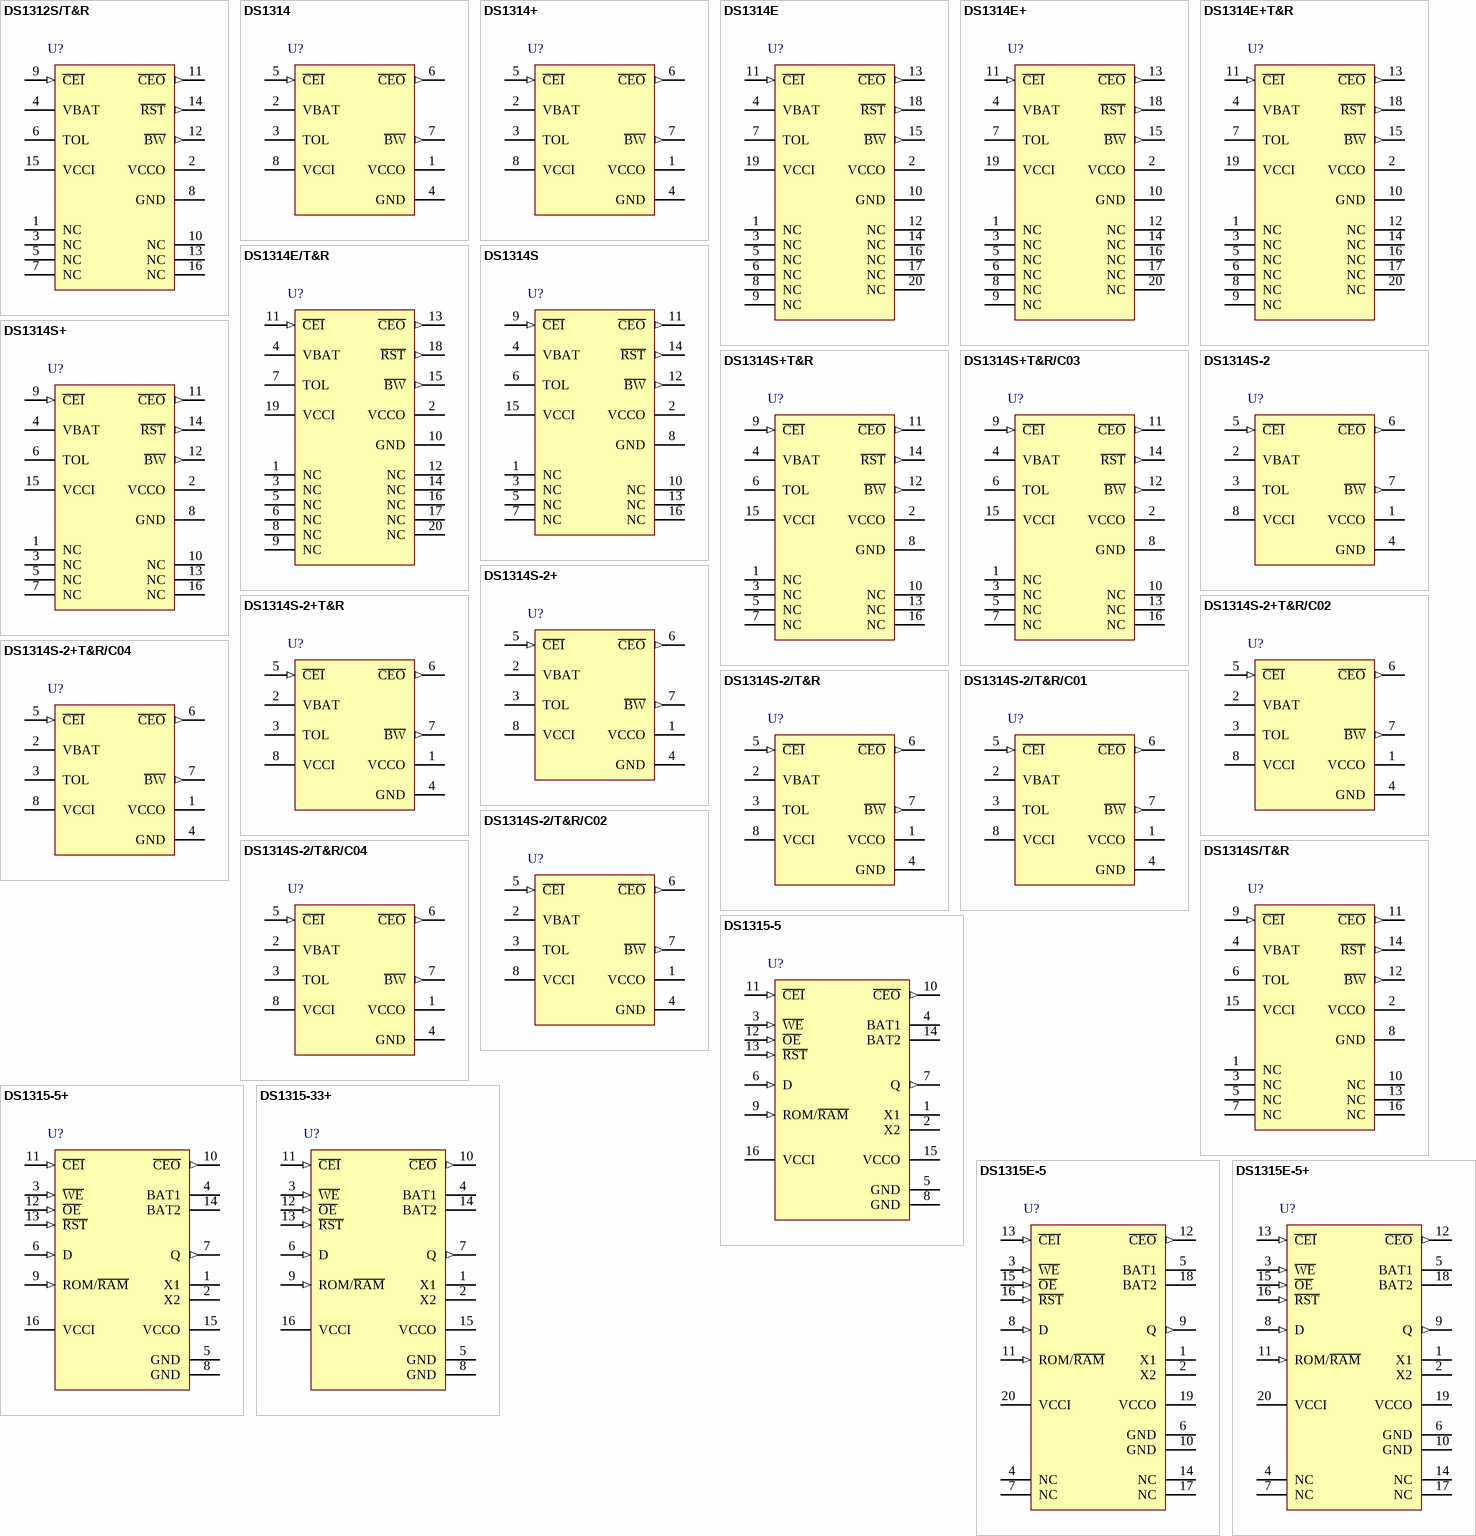
[diagram p8: symbols DS1312S/T&R to DS1315E-5+]

## DS1312S/T&R
designator U?
Nonvolatile Controller with Lithium Battery Monitor, 16-pin SOIC, -40° to + 85° C, Tape and Reel; DatasheetVersion: 1/09/2004; PackageVersion: revD, 2010; PackageReference: W16-1; PackageDescription: 16-Pin Small-Outline IC, Wide (0.3in), 1.27 mm Pitch, SOIC (W); Code_JEDEC: MS-013-AA; Code_IPC: SOIC127P1030-16; ComponentLink1Description: Manufacturer URL; ComponentLink1URL: www.maxim-ic.com; ComponentLink2Description: Datasheet; ComponentLink2URL: http://datasheets.maxim-ic.com/en/ds/DS1312.pdf
footprint W16-1_N (SOIC, 16-Leads, Body 10.3x7.5mm, Pitch 1.27mm, IPC Medium Density)
footprint W16-1_L (SOIC, 16-Leads, Body 10.3x7.5mm, Pitch 1.27mm, IPC High Density)
footprint W16-1_M (SOIC, 16-Leads, Body 10.3x7.5mm, Pitch 1.27mm, IPC Low Density)
pins: 1 NC, 2 VCCO (power), 3 NC, 4 VBAT, 5 NC, 6 TOL, 7 NC, 8 GND (power), 9 ~{CEI} (in), 10 NC, 11 ~{CEO} (out), 12 ~{BW} (out), 13 NC, 14 ~{RST} (out), 15 VCCI (power), 16 NC

## DS1314
designator U?
3V Nonvolatile Controller with Lithium Battery Monitor, 8-pin PDIP, -40° to + 85° C; DatasheetVersion: 1/07/2005; PackageVersion: revE, 2011; PackageReference: P8-2; PackageDescription: 8-Pin Plastic Dual-In-Line, Narrow (0.3in), Pitch 2.54 mm, PDIP(N); Code_JEDEC: MS-001-AB; ComponentLink1Description: Manufacturer URL; ComponentLink1URL: www.maxim-ic.com; ComponentLink2Description: Datasheet; ComponentLink2URL: http://datasheets.maxim-ic.com/en/ds/DS1314.pdf
footprint P8-2 (DIP, 8-Leads, Row Spacing 7.62mm, Pitch 2.54mm, Body 9.4x7mm)
pins: 1 VCCO (power), 2 VBAT, 3 TOL, 4 GND (power), 5 ~{CEI} (in), 6 ~{CEO} (out), 7 ~{BW} (out), 8 VCCI (power)

## DS1314+
designator U?
3V Nonvolatile Controller with Lithium Battery Monitor, 8-pin PDIP, -40° to + 85° C, Pb-Free; DatasheetVersion: 1/07/2005; PackageVersion: revE, 2011; PackageReference: P8+2; PackageDescription: 8-Pin Plastic Dual-In-Line, Narrow (0.3in), Pitch 2.54 mm, PDIP(N), Pb-Free; Code_JEDEC: MS-001-AB; ComponentLink1Description: Manufacturer URL; ComponentLink1URL: www.maxim-ic.com; ComponentLink2Description: Datasheet; ComponentLink2URL: http://datasheets.maxim-ic.com/en/ds/DS1314.pdf
footprint P8+2 (DIP, 8-Leads, Row Spacing 7.62mm, Pitch 2.54mm, Body 9.4x7mm)
pins: 1 VCCO (power), 2 VBAT, 3 TOL, 4 GND (power), 5 ~{CEI} (in), 6 ~{CEO} (out), 7 ~{BW} (out), 8 VCCI (power)

## DS1314E
designator U?
3V Nonvolatile Controller with Lithium Battery Monitor, 20-pin TSSOP, -40° to + 85° C; DatasheetVersion: 1/07/2005; PackageVersion: revL, 2010; PackageReference: U20-1; PackageDescription: 20-Pin Thin Shrink Small-Outline Package, 4.4 mm Body, TSSOP; Code_JEDEC: MO-153-AC; ComponentLink1Description: Manufacturer URL; ComponentLink1URL: www.maxim-ic.com; ComponentLink2Description: Datasheet; ComponentLink2URL: http://datasheets.maxim-ic.com/en/ds/DS1314.pdf
footprint U20-1_N (TSOP, 20-Leads, Body 6.5x4.4mm, Pitch 0.65mm, IPC Medium Density)
footprint U20-1_L (TSOP, 20-Leads, Body 6.5x4.4mm, Pitch 0.65mm, IPC High Density)
footprint U20-1_M (TSOP, 20-Leads, Body 6.5x4.4mm, Pitch 0.65mm, IPC Low Density)
pins: 1 NC, 2 VCCO (power), 3 NC, 4 VBAT, 5 NC, 6 NC, 7 TOL, 8 NC, 9 NC, 10 GND (power), 11 ~{CEI} (in), 12 NC, 13 ~{CEO} (out), 14 NC, 15 ~{BW} (out), 16 NC, 17 NC, 18 ~{RST} (out), 19 VCCI (power), 20 NC

## DS1314E+
designator U?
3V Nonvolatile Controller with Lithium Battery Monitor, 20-pin TSSOP, -40° to + 85° C, Pb-Free; DatasheetVersion: 1/07/2005; PackageVersion: revL, 2010; PackageReference: U20+1; PackageDescription: 20-Pin Thin Shrink Small-Outline Package, 4.4 mm Body, TSSOP, Pb-Free; Code_JEDEC: MO-153-AC; ComponentLink1Description: Manufacturer URL; ComponentLink1URL: www.maxim-ic.com; ComponentLink2Description: Datasheet; ComponentLink2URL: http://datasheets.maxim-ic.com/en/ds/DS1314.pdf
footprint U20+1_N (TSOP, 20-Leads, Body 6.5x4.4mm, Pitch 0.65mm, IPC Medium Density)
footprint U20+1_L (TSOP, 20-Leads, Body 6.5x4.4mm, Pitch 0.65mm, IPC High Density)
footprint U20+1_M (TSOP, 20-Leads, Body 6.5x4.4mm, Pitch 0.65mm, IPC Low Density)
pins: 1 NC, 2 VCCO (power), 3 NC, 4 VBAT, 5 NC, 6 NC, 7 TOL, 8 NC, 9 NC, 10 GND (power), 11 ~{CEI} (in), 12 NC, 13 ~{CEO} (out), 14 NC, 15 ~{BW} (out), 16 NC, 17 NC, 18 ~{RST} (out), 19 VCCI (power), 20 NC

## DS1314E+T&R
designator U?
3V Nonvolatile Controller with Lithium Battery Monitor, 20-pin TSSOP, -40° to + 85° C, Pb-Free, Tape and Reel; DatasheetVersion: 1/07/2005; PackageVersion: revL, 2010; PackageReference: U20+1; PackageDescription: 20-Pin Thin Shrink Small-Outline Package, 4.4 mm Body, TSSOP, Pb-Free; Code_JEDEC: MO-153-AC; ComponentLink1Description: Manufacturer URL; ComponentLink1URL: www.maxim-ic.com; ComponentLink2Description: Datasheet; ComponentLink2URL: http://datasheets.maxim-ic.com/en/ds/DS1314.pdf
footprint U20+1_N (TSOP, 20-Leads, Body 6.5x4.4mm, Pitch 0.65mm, IPC Medium Density)
footprint U20+1_L (TSOP, 20-Leads, Body 6.5x4.4mm, Pitch 0.65mm, IPC High Density)
footprint U20+1_M (TSOP, 20-Leads, Body 6.5x4.4mm, Pitch 0.65mm, IPC Low Density)
pins: 1 NC, 2 VCCO (power), 3 NC, 4 VBAT, 5 NC, 6 NC, 7 TOL, 8 NC, 9 NC, 10 GND (power), 11 ~{CEI} (in), 12 NC, 13 ~{CEO} (out), 14 NC, 15 ~{BW} (out), 16 NC, 17 NC, 18 ~{RST} (out), 19 VCCI (power), 20 NC